# Altium schematic symbol library TI Stellaris.SchLib: 293 symbols (part 5 of 7)
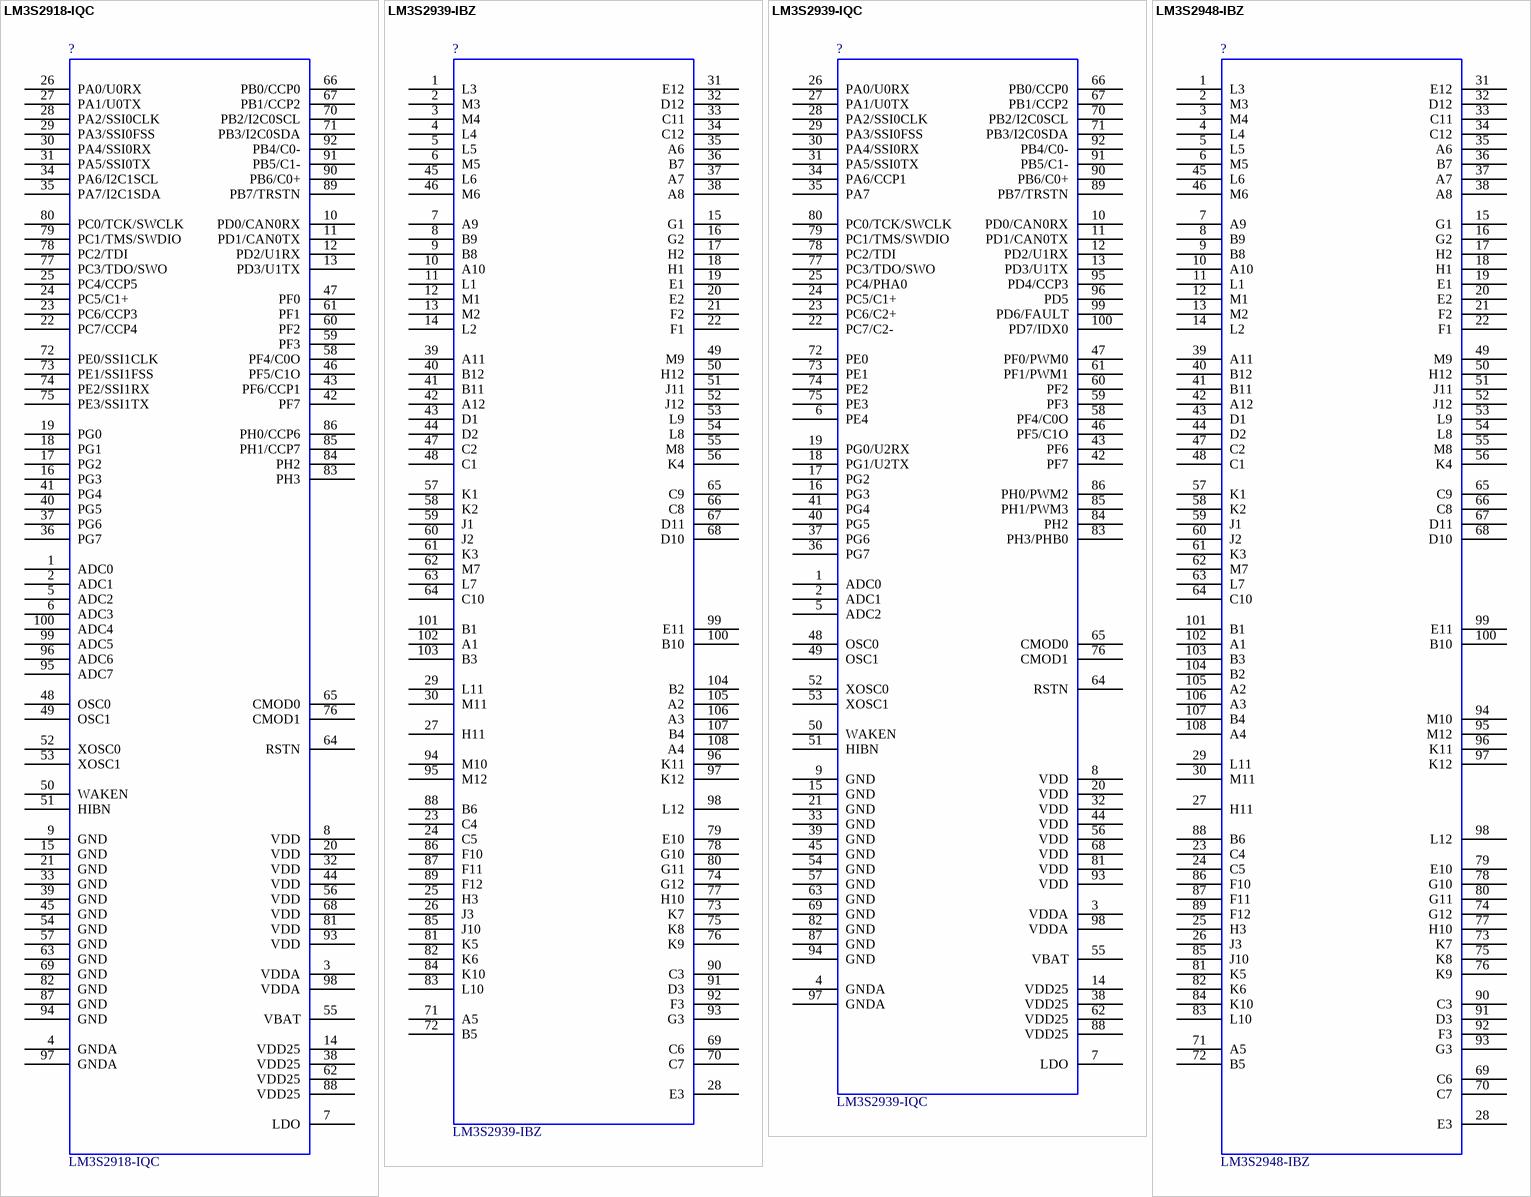
[diagram p73: symbols LM3S2918-IQC to LM3S2948-IBZ]

## LM3S2939-IBZ
designator ?  Comment_1: LM3S2939-IBZ  (hidden comment: *)
Stellaris ARM Cortex-M3 Microcontroller; Manufacturer #1: Luminary Micro; LMI Class: Fury; Designator: U; Part Number: LM3S2939-IBZ
footprint BGA108C80P12X12_1000X1000X150
pins: 1 L3, 2 M3, 3 M4, 4 L4, 5 L5, 6 M5, 7 A9, 8 B9, 9 B8, 10 A10, 11 L1, 12 M1, 13 M2, 14 L2, 15 G1, 16 G2, 17 H2, 18 H1, 19 E1, 20 E2, 21 F2, 22 F1, 23 C4, 24 C5, 25 H3, 26 J3, 27 H11, 28 E3, 29 L11, 30 M11, 31 E12, 32 D12, 33 C11, 34 C12, 35 A6, 36 B7, 37 A7, 38 A8, 39 A11, 40 B12, 41 B11, 42 A12, 43 D1, 44 D2, 45 L6, 46 M6, 47 C2, 48 C1, 49 M9, 50 H12, 51 J11, 52 J12, 53 L9, 54 L8, 55 M8, 56 K4, 57 K1, 58 K2, 59 J1, 60 J2, 61 K3, 62 M7, 63 L7, 64 C10, 65 C9, 66 C8, 67 D11, 68 D10, 69 C6, 70 C7, 71 A5, 72 B5, 73 K7, 74 G12, 75 K8, 76 K9, 77 H10, 78 G10, 79 E10, 80 G11, 81 K5, 82 K6, 83 L10, 84 K10, 85 J10, 86 F10, 87 F11, 88 B6, 89 F12, 90 C3, 91 D3, 92 F3, 93 G3, 94 M10, 95 M12, 96 K11, 97 K12, 98 L12, 99 E11, 100 B10, 101 B1, 102 A1, 103 B3, 104 B2, 105 A2, 106 A3, 107 B4, 108 A4

## LM3S2939-IQC
designator ?  Comment_1: LM3S2939-IQC  (hidden comment: *)
Stellaris ARM Cortex-M3 Microcontroller; Manufacturer #1: Luminary Micro; LMI Class: Fury; Designator: U; Part Number: LM3S2939-IQC
footprint QFP50P1600X1600X160-100N
pins: 1 ADC0, 2 ADC1, 3 VDDA, 4 GNDA, 5 ADC2, 6 PE4, 7 LDO, 8 VDD, 9 GND, 10 PD0/CAN0RX, 11 PD1/CAN0TX, 12 PD2/U1RX, 13 PD3/U1TX, 14 VDD25, 15 GND, 16 PG3, 17 PG2, 18 PG1/U2TX, 19 PG0/U2RX, 20 VDD, 21 GND, 22 PC7/C2-, 23 PC6/C2+, 24 PC5/C1+, 25 PC4/PHA0, 26 PA0/U0RX, 27 PA1/U0TX, 28 PA2/SSI0CLK, 29 PA3/SSI0FSS, 30 PA4/SSI0RX, 31 PA5/SSI0TX, 32 VDD, 33 GND, 34 PA6/CCP1, 35 PA7, 36 PG7, 37 PG6, 38 VDD25, 39 GND, 40 PG5, 41 PG4, 42 PF7, 43 PF6, 44 VDD, 45 GND, 46 PF5/C1O, 47 PF0/PWM0, 48 OSC0, 49 OSC1, 50 WAKEN, 51 HIBN, 52 XOSC0, 53 XOSC1, 54 GND, 55 VBAT, 56 VDD, 57 GND, 58 PF4/C0O, 59 PF3, 60 PF2, 61 PF1/PWM1, 62 VDD25, 63 GND, 64 RSTN, 65 CMOD0, 66 PB0/CCP0, 67 PB1/CCP2, 68 VDD, 69 GND, 70 PB2/I2C0SCL, 71 PB3/I2C0SDA, 72 PE0, 73 PE1, 74 PE2, 75 PE3, 76 CMOD1, 77 PC3/TDO/SWO, 78 PC2/TDI, 79 PC1/TMS/SWDIO, 80 PC0/TCK/SWCLK, 81 VDD, 82 GND, 83 PH3/PHB0, 84 PH2, 85 PH1/PWM3, 86 PH0/PWM2, 87 GND, 88 VDD25, 89 PB7/TRSTN, 90 PB6/C0+, 91 PB5/C1-, 92 PB4/C0-, 93 VDD, 94 GND, 95 PD4/CCP3, 96 PD5, 97 GNDA, 98 VDDA, 99 PD6/FAULT, 100 PD7/IDX0

## LM3S2948-IBZ
designator ?  Comment_1: LM3S2948-IBZ  (hidden comment: *)
Stellaris ARM Cortex-M3 Microcontroller; Manufacturer #1: Luminary Micro; LMI Class: Fury; Designator: U; Part Number: LM3S2948-IBZ
footprint BGA108C80P12X12_1000X1000X150
pins: 1 L3, 2 M3, 3 M4, 4 L4, 5 L5, 6 M5, 7 A9, 8 B9, 9 B8, 10 A10, 11 L1, 12 M1, 13 M2, 14 L2, 15 G1, 16 G2, 17 H2, 18 H1, 19 E1, 20 E2, 21 F2, 22 F1, 23 C4, 24 C5, 25 H3, 26 J3, 27 H11, 28 E3, 29 L11, 30 M11, 31 E12, 32 D12, 33 C11, 34 C12, 35 A6, 36 B7, 37 A7, 38 A8, 39 A11, 40 B12, 41 B11, 42 A12, 43 D1, 44 D2, 45 L6, 46 M6, 47 C2, 48 C1, 49 M9, 50 H12, 51 J11, 52 J12, 53 L9, 54 L8, 55 M8, 56 K4, 57 K1, 58 K2, 59 J1, 60 J2, 61 K3, 62 M7, 63 L7, 64 C10, 65 C9, 66 C8, 67 D11, 68 D10, 69 C6, 70 C7, 71 A5, 72 B5, 73 K7, 74 G12, 75 K8, 76 K9, 77 H10, 78 G10, 79 E10, 80 G11, 81 K5, 82 K6, 83 L10, 84 K10, 85 J10, 86 F10, 87 F11, 88 B6, 89 F12, 90 C3, 91 D3, 92 F3, 93 G3, 94 M10, 95 M12, 96 K11, 97 K12, 98 L12, 99 E11, 100 B10, 101 B1, 102 A1, 103 B3, 104 B2, 105 A2, 106 A3, 107 B4, 108 A4

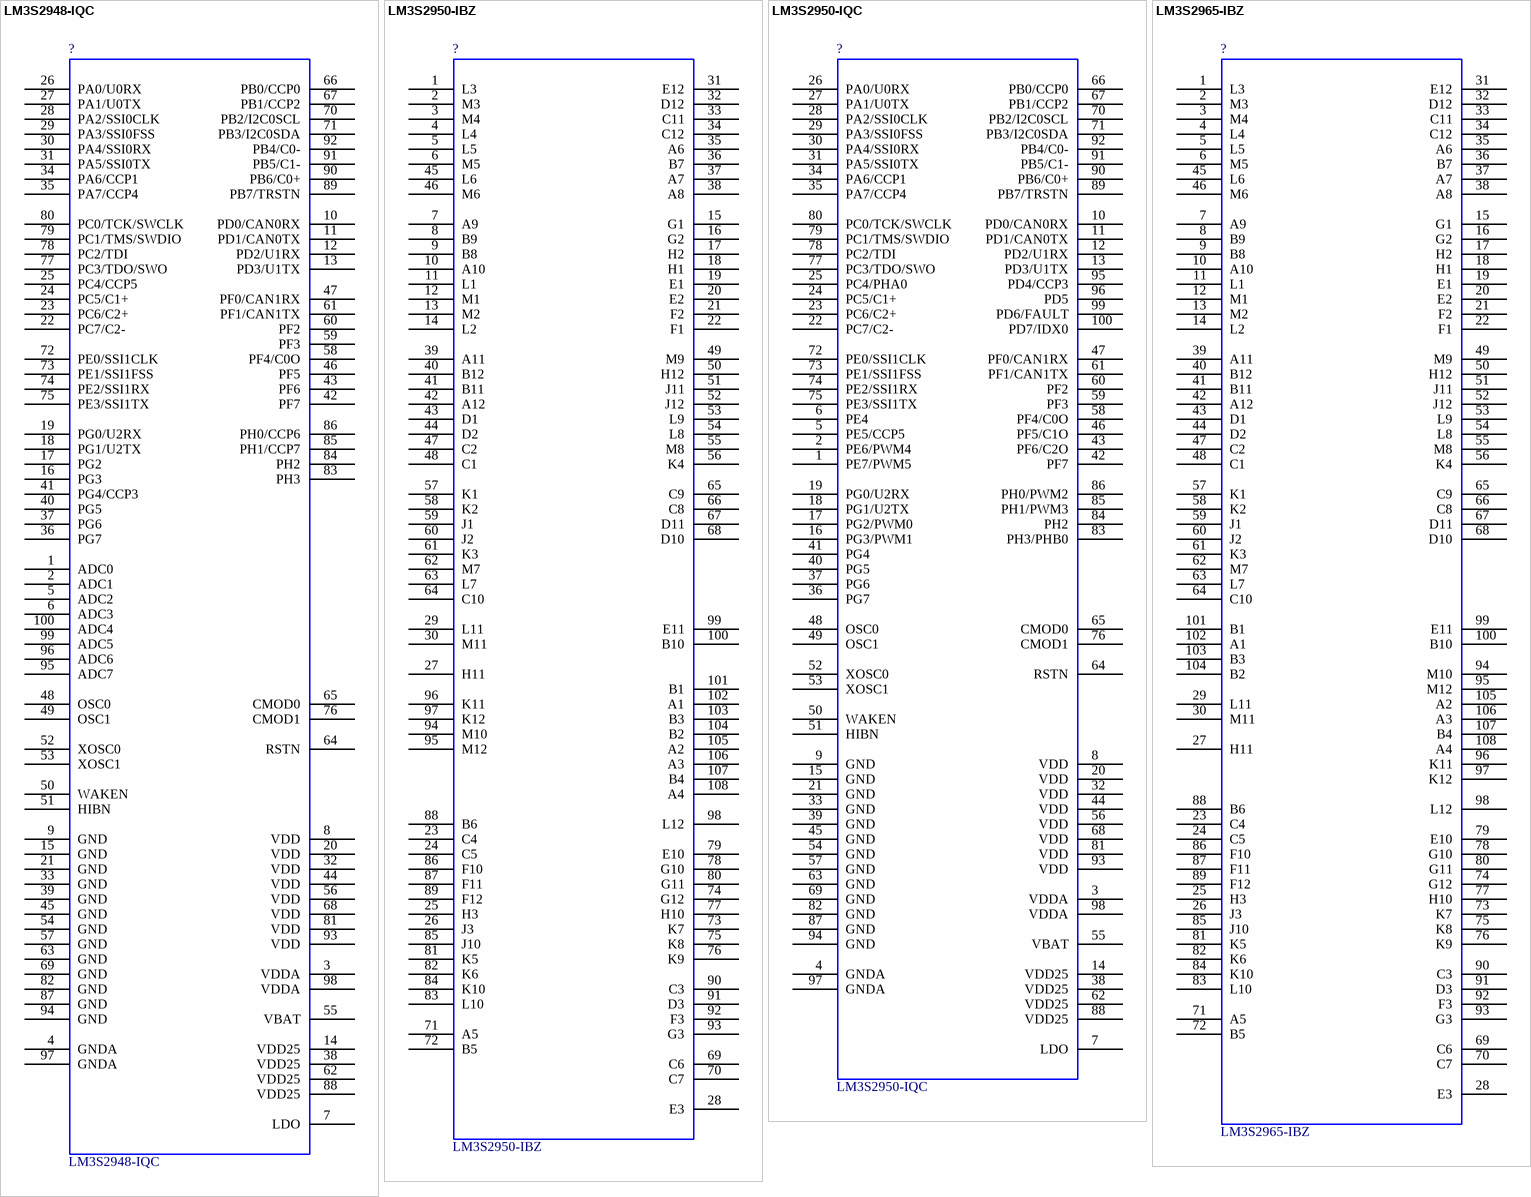
[diagram p44: symbols LM3S2948-IQC to LM3S2965-IBZ]

## LM3S2948-IQC
designator ?  Comment_1: LM3S2948-IQC  (hidden comment: *)
Stellaris ARM Cortex-M3 Microcontroller; Manufacturer #1: Luminary Micro; LMI Class: Fury; Designator: U; Part Number: LM3S2948-IQC
footprint QFP50P1600X1600X160-100N
pins: 1 ADC0, 2 ADC1, 3 VDDA, 4 GNDA, 5 ADC2, 6 ADC3, 7 LDO, 8 VDD, 9 GND, 10 PD0/CAN0RX, 11 PD1/CAN0TX, 12 PD2/U1RX, 13 PD3/U1TX, 14 VDD25, 15 GND, 16 PG3, 17 PG2, 18 PG1/U2TX, 19 PG0/U2RX, 20 VDD, 21 GND, 22 PC7/C2-, 23 PC6/C2+, 24 PC5/C1+, 25 PC4/CCP5, 26 PA0/U0RX, 27 PA1/U0TX, 28 PA2/SSI0CLK, 29 PA3/SSI0FSS, 30 PA4/SSI0RX, 31 PA5/SSI0TX, 32 VDD, 33 GND, 34 PA6/CCP1, 35 PA7/CCP4, 36 PG7, 37 PG6, 38 VDD25, 39 GND, 40 PG5, 41 PG4/CCP3, 42 PF7, 43 PF6, 44 VDD, 45 GND, 46 PF5, 47 PF0/CAN1RX, 48 OSC0, 49 OSC1, 50 WAKEN, 51 HIBN, 52 XOSC0, 53 XOSC1, 54 GND, 55 VBAT, 56 VDD, 57 GND, 58 PF4/C0O, 59 PF3, 60 PF2, 61 PF1/CAN1TX, 62 VDD25, 63 GND, 64 RSTN, 65 CMOD0, 66 PB0/CCP0, 67 PB1/CCP2, 68 VDD, 69 GND, 70 PB2/I2C0SCL, 71 PB3/I2C0SDA, 72 PE0/SSI1CLK, 73 PE1/SSI1FSS, 74 PE2/SSI1RX, 75 PE3/SSI1TX, 76 CMOD1, 77 PC3/TDO/SWO, 78 PC2/TDI, 79 PC1/TMS/SWDIO, 80 PC0/TCK/SWCLK, 81 VDD, 82 GND, 83 PH3, 84 PH2, 85 PH1/CCP7, 86 PH0/CCP6, 87 GND, 88 VDD25, 89 PB7/TRSTN, 90 PB6/C0+, 91 PB5/C1-, 92 PB4/C0-, 93 VDD, 94 GND, 95 ADC7, 96 ADC6, 97 GNDA, 98 VDDA, 99 ADC5, 100 ADC4

## LM3S2950-IBZ
designator ?  Comment_1: LM3S2950-IBZ  (hidden comment: *)
Stellaris ARM Cortex-M3 Microcontroller; Manufacturer #1: Luminary Micro; LMI Class: Fury; Designator: U; Part Number: LM3S2950-IBZ
footprint BGA108C80P12X12_1000X1000X150
pins: 1 L3, 2 M3, 3 M4, 4 L4, 5 L5, 6 M5, 7 A9, 8 B9, 9 B8, 10 A10, 11 L1, 12 M1, 13 M2, 14 L2, 15 G1, 16 G2, 17 H2, 18 H1, 19 E1, 20 E2, 21 F2, 22 F1, 23 C4, 24 C5, 25 H3, 26 J3, 27 H11, 28 E3, 29 L11, 30 M11, 31 E12, 32 D12, 33 C11, 34 C12, 35 A6, 36 B7, 37 A7, 38 A8, 39 A11, 40 B12, 41 B11, 42 A12, 43 D1, 44 D2, 45 L6, 46 M6, 47 C2, 48 C1, 49 M9, 50 H12, 51 J11, 52 J12, 53 L9, 54 L8, 55 M8, 56 K4, 57 K1, 58 K2, 59 J1, 60 J2, 61 K3, 62 M7, 63 L7, 64 C10, 65 C9, 66 C8, 67 D11, 68 D10, 69 C6, 70 C7, 71 A5, 72 B5, 73 K7, 74 G12, 75 K8, 76 K9, 77 H10, 78 G10, 79 E10, 80 G11, 81 K5, 82 K6, 83 L10, 84 K10, 85 J10, 86 F10, 87 F11, 88 B6, 89 F12, 90 C3, 91 D3, 92 F3, 93 G3, 94 M10, 95 M12, 96 K11, 97 K12, 98 L12, 99 E11, 100 B10, 101 B1, 102 A1, 103 B3, 104 B2, 105 A2, 106 A3, 107 B4, 108 A4

## LM3S2950-IQC
designator ?  Comment_1: LM3S2950-IQC  (hidden comment: *)
Stellaris ARM Cortex-M3 Microcontroller; Manufacturer #1: Luminary Micro; LMI Class: Fury; Designator: U; Part Number: LM3S2950-IQC
footprint QFP50P1600X1600X160-100N
pins: 1 PE7/PWM5, 2 PE6/PWM4, 3 VDDA, 4 GNDA, 5 PE5/CCP5, 6 PE4, 7 LDO, 8 VDD, 9 GND, 10 PD0/CAN0RX, 11 PD1/CAN0TX, 12 PD2/U1RX, 13 PD3/U1TX, 14 VDD25, 15 GND, 16 PG3/PWM1, 17 PG2/PWM0, 18 PG1/U2TX, 19 PG0/U2RX, 20 VDD, 21 GND, 22 PC7/C2-, 23 PC6/C2+, 24 PC5/C1+, 25 PC4/PHA0, 26 PA0/U0RX, 27 PA1/U0TX, 28 PA2/SSI0CLK, 29 PA3/SSI0FSS, 30 PA4/SSI0RX, 31 PA5/SSI0TX, 32 VDD, 33 GND, 34 PA6/CCP1, 35 PA7/CCP4, 36 PG7, 37 PG6, 38 VDD25, 39 GND, 40 PG5, 41 PG4, 42 PF7, 43 PF6/C2O, 44 VDD, 45 GND, 46 PF5/C1O, 47 PF0/CAN1RX, 48 OSC0, 49 OSC1, 50 WAKEN, 51 HIBN, 52 XOSC0, 53 XOSC1, 54 GND, 55 VBAT, 56 VDD, 57 GND, 58 PF4/C0O, 59 PF3, 60 PF2, 61 PF1/CAN1TX, 62 VDD25, 63 GND, 64 RSTN, 65 CMOD0, 66 PB0/CCP0, 67 PB1/CCP2, 68 VDD, 69 GND, 70 PB2/I2C0SCL, 71 PB3/I2C0SDA, 72 PE0/SSI1CLK, 73 PE1/SSI1FSS, 74 PE2/SSI1RX, 75 PE3/SSI1TX, 76 CMOD1, 77 PC3/TDO/SWO, 78 PC2/TDI, 79 PC1/TMS/SWDIO, 80 PC0/TCK/SWCLK, 81 VDD, 82 GND, 83 PH3/PHB0, 84 PH2, 85 PH1/PWM3, 86 PH0/PWM2, 87 GND, 88 VDD25, 89 PB7/TRSTN, 90 PB6/C0+, 91 PB5/C1-, 92 PB4/C0-, 93 VDD, 94 GND, 95 PD4/CCP3, 96 PD5, 97 GNDA, 98 VDDA, 99 PD6/FAULT, 100 PD7/IDX0

## LM3S2965-IBZ
designator ?  Comment_1: LM3S2965-IBZ  (hidden comment: *)
Stellaris ARM Cortex-M3 Microcontroller; Manufacturer #1: Luminary Micro; LMI Class: Fury; Designator: U; Part Number: LM3S2965-IBZ
footprint BGA108C80P12X12_1000X1000X150
pins: 1 L3, 2 M3, 3 M4, 4 L4, 5 L5, 6 M5, 7 A9, 8 B9, 9 B8, 10 A10, 11 L1, 12 M1, 13 M2, 14 L2, 15 G1, 16 G2, 17 H2, 18 H1, 19 E1, 20 E2, 21 F2, 22 F1, 23 C4, 24 C5, 25 H3, 26 J3, 27 H11, 28 E3, 29 L11, 30 M11, 31 E12, 32 D12, 33 C11, 34 C12, 35 A6, 36 B7, 37 A7, 38 A8, 39 A11, 40 B12, 41 B11, 42 A12, 43 D1, 44 D2, 45 L6, 46 M6, 47 C2, 48 C1, 49 M9, 50 H12, 51 J11, 52 J12, 53 L9, 54 L8, 55 M8, 56 K4, 57 K1, 58 K2, 59 J1, 60 J2, 61 K3, 62 M7, 63 L7, 64 C10, 65 C9, 66 C8, 67 D11, 68 D10, 69 C6, 70 C7, 71 A5, 72 B5, 73 K7, 74 G12, 75 K8, 76 K9, 77 H10, 78 G10, 79 E10, 80 G11, 81 K5, 82 K6, 83 L10, 84 K10, 85 J10, 86 F10, 87 F11, 88 B6, 89 F12, 90 C3, 91 D3, 92 F3, 93 G3, 94 M10, 95 M12, 96 K11, 97 K12, 98 L12, 99 E11, 100 B10, 101 B1, 102 A1, 103 B3, 104 B2, 105 A2, 106 A3, 107 B4, 108 A4

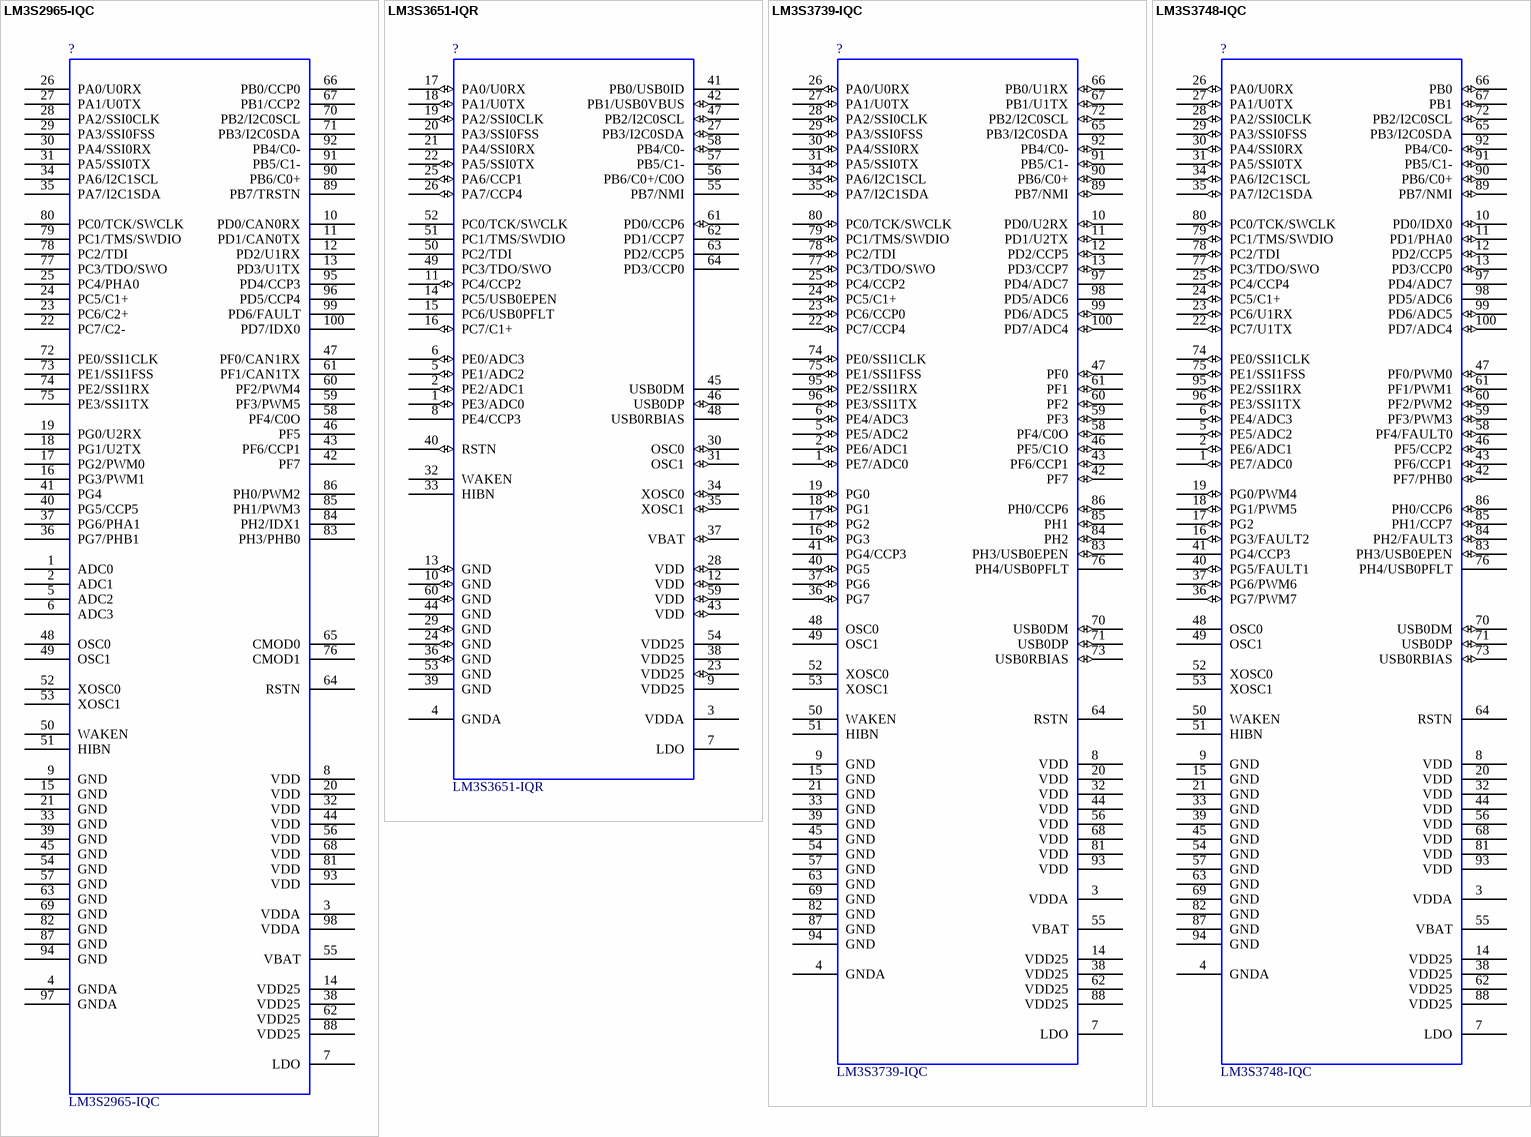
[diagram p45: symbols LM3S2965-IQC to LM3S3748-IQC]

## LM3S2965-IQC
designator ?  Comment_1: LM3S2965-IQC  (hidden comment: *)
Stellaris ARM Cortex-M3 Microcontroller; Manufacturer #1: Luminary Micro; LMI Class: Fury; Designator: U; Part Number: LM3S2965-IQC
footprint QFP50P1600X1600X160-100N
pins: 1 ADC0, 2 ADC1, 3 VDDA, 4 GNDA, 5 ADC2, 6 ADC3, 7 LDO, 8 VDD, 9 GND, 10 PD0/CAN0RX, 11 PD1/CAN0TX, 12 PD2/U1RX, 13 PD3/U1TX, 14 VDD25, 15 GND, 16 PG3/PWM1, 17 PG2/PWM0, 18 PG1/U2TX, 19 PG0/U2RX, 20 VDD, 21 GND, 22 PC7/C2-, 23 PC6/C2+, 24 PC5/C1+, 25 PC4/PHA0, 26 PA0/U0RX, 27 PA1/U0TX, 28 PA2/SSI0CLK, 29 PA3/SSI0FSS, 30 PA4/SSI0RX, 31 PA5/SSI0TX, 32 VDD, 33 GND, 34 PA6/I2C1SCL, 35 PA7/I2C1SDA, 36 PG7/PHB1, 37 PG6/PHA1, 38 VDD25, 39 GND, 40 PG5/CCP5, 41 PG4, 42 PF7, 43 PF6/CCP1, 44 VDD, 45 GND, 46 PF5, 47 PF0/CAN1RX, 48 OSC0, 49 OSC1, 50 WAKEN, 51 HIBN, 52 XOSC0, 53 XOSC1, 54 GND, 55 VBAT, 56 VDD, 57 GND, 58 PF4/C0O, 59 PF3/PWM5, 60 PF2/PWM4, 61 PF1/CAN1TX, 62 VDD25, 63 GND, 64 RSTN, 65 CMOD0, 66 PB0/CCP0, 67 PB1/CCP2, 68 VDD, 69 GND, 70 PB2/I2C0SCL, 71 PB3/I2C0SDA, 72 PE0/SSI1CLK, 73 PE1/SSI1FSS, 74 PE2/SSI1RX, 75 PE3/SSI1TX, 76 CMOD1, 77 PC3/TDO/SWO, 78 PC2/TDI, 79 PC1/TMS/SWDIO, 80 PC0/TCK/SWCLK, 81 VDD, 82 GND, 83 PH3/PHB0, 84 PH2/IDX1, 85 PH1/PWM3, 86 PH0/PWM2, 87 GND, 88 VDD25, 89 PB7/TRSTN, 90 PB6/C0+, 91 PB5/C1-, 92 PB4/C0-, 93 VDD, 94 GND, 95 PD4/CCP3, 96 PD5/CCP4, 97 GNDA, 98 VDDA, 99 PD6/FAULT, 100 PD7/IDX0

## LM3S3651-IQR
designator ?  Comment_1: LM3S3651-IQR  (hidden comment: *)
Stellaris ARM Cortex-M3 Microcontroller; Manufacturer #1: Luminary Micro; LMI Class: Dust Devil; Designator: U; Part Number: LM3S3651-IQR
footprint QFP50P1200X1200X160-64N
pins: 1 PE3/ADC0 (io), 2 PE2/ADC1 (io), 3 VDDA (power), 4 GNDA (power), 5 PE1/ADC2 (io), 6 PE0/ADC3 (io), 7 LDO, 8 PE4/CCP3 (power), 9 VDD25 (power), 10 GND (io), 11 PC4/CCP2 (io), 12 VDD (io), 13 GND (io), 14 PC5/USB0EPEN (power), 15 PC6/USB0PFLT (power), 16 PC7/C1+ (io), 17 PA0/U0RX (io), 18 PA1/U0TX (io), 19 PA2/SSI0CLK (io), 20 PA3/SSI0FSS (power), 21 PA4/SSI0RX (power), 22 PA5/SSI0TX (io), 23 VDD25 (io), 24 GND (io), 25 PA6/CCP1 (io), 26 PA7/CCP4 (io), 27 PB3/I2C0SDA (io), 28 VDD (io), 29 GND (io), 30 OSC0 (io), 31 OSC1 (io), 32 WAKEN (power), 33 HIBN (power), 34 XOSC0 (io), 35 XOSC1 (io), 36 GND (io), 37 VBAT (io), 38 VDD25 (power), 39 GND (power), 40 RSTN (io), 41 PB0/USB0ID, 42 PB1/USB0VBUS (io), 43 VDD (io), 44 GND (power), 45 USB0DM (power), 46 USB0DP (io), 47 PB2/I2C0SCL (io), 48 USB0RBIAS, 49 PC3/TDO/SWO, 50 PC2/TDI, 51 PC1/TMS/SWDIO, 52 PC0/TCK/SWCLK, 53 GND, 54 VDD25 (power), 55 PB7/NMI (power), 56 PB6/C0+/C0O (power), 57 PB5/C1- (power), 58 PB4/C0- (io), 59 VDD (io), 60 GND (io), 61 PD0/CCP6 (io), 62 PD1/CCP7 (power), 63 PD2/CCP5 (power), 64 PD3/CCP0

## LM3S3739-IQC
designator ?  Comment_1: LM3S3739-IQC  (hidden comment: *)
Stellaris ARM Cortex-M3 Microcontroller; Manufacturer #1: Luminary Micro; LMI Class: Dust Devil; Designator: U; Part Number: LM3S3739-IQC
footprint QFP50P1600X1600X160-100N
pins: 1 PE7/ADC0 (io), 2 PE6/ADC1 (io), 3 VDDA (power), 4 GNDA (power), 5 PE5/ADC2 (io), 6 PE4/ADC3 (io), 7 LDO, 8 VDD (power), 9 GND (power), 10 PD0/U2RX (io), 11 PD1/U2TX (io), 12 PD2/CCP5 (io), 13 PD3/CCP7 (io), 14 VDD25 (power), 15 GND (power), 16 PG3 (io), 17 PG2 (io), 18 PG1 (io), 19 PG0 (io), 20 VDD (power), 21 GND (power), 22 PC7/CCP4 (io), 23 PC6/CCP0 (io), 24 PC5/C1+ (io), 25 PC4/CCP2 (io), 26 PA0/U0RX (io), 27 PA1/U0TX (io), 28 PA2/SSI0CLK (io), 29 PA3/SSI0FSS (io), 30 PA4/SSI0RX (io), 31 PA5/SSI0TX (io), 32 VDD (power), 33 GND (power), 34 PA6/I2C1SCL (io), 35 PA7/I2C1SDA (io), 36 PG7 (io), 37 PG6 (io), 38 VDD25 (power), 39 GND (power), 40 PG5 (io), 41 PG4/CCP3, 42 PF7 (io), 43 PF6/CCP1 (io), 44 VDD (power), 45 GND (power), 46 PF5/C1O (io), 47 PF0 (io), 48 OSC0, 49 OSC1, 50 WAKEN, 51 HIBN, 52 XOSC0, 53 XOSC1, 54 GND (power), 55 VBAT (power), 56 VDD (power), 57 GND (power), 58 PF4/C0O (io), 59 PF3 (io), 60 PF2 (io), 61 PF1 (io), 62 VDD25 (power), 63 GND (power), 64 RSTN, 65 PB3/I2C0SDA, 66 PB0/U1RX (io), 67 PB1/U1TX (io), 68 VDD (power), 69 GND (power), 70 USB0DM (io), 71 USB0DP (io), 72 PB2/I2C0SCL (io), 73 USB0RBIAS (io), 74 PE0/SSI1CLK (io), 75 PE1/SSI1FSS (io), 76 PH4/USB0PFLT, 77 PC3/TDO/SWO (io), 78 PC2/TDI (io), 79 PC1/TMS/SWDIO (io), 80 PC0/TCK/SWCLK (io), 81 VDD (power), 82 GND (power), 83 PH3/USB0EPEN (io), 84 PH2 (io), 85 PH1 (io), 86 PH0/CCP6 (io), 87 GND (power), 88 VDD25 (power), 89 PB7/NMI (io), 90 PB6/C0+ (io), 91 PB5/C1- (io), 92 PB4/C0- (io), 93 VDD (power), 94 GND (power), 95 PE2/SSI1RX (io), 96 PE3/SSI1TX (io), 97 PD4/ADC7 (power), 98 PD5/ADC6 (power), 99 PD6/ADC5 (io), 100 PD7/ADC4 (io)

## LM3S3748-IQC
designator ?  Comment_1: LM3S3748-IQC  (hidden comment: *)
Stellaris ARM Cortex-M3 Microcontroller; Manufacturer #1: Luminary Micro; LMI Class: Dust Devil; Designator: U; Part Number: LM3S3748-IQC
footprint QFP50P1600X1600X160-100N
pins: 1 PE7/ADC0 (io), 2 PE6/ADC1 (io), 3 VDDA (power), 4 GNDA (power), 5 PE5/ADC2 (io), 6 PE4/ADC3 (io), 7 LDO, 8 VDD (power), 9 GND (power), 10 PD0/IDX0 (io), 11 PD1/PHA0 (io), 12 PD2/CCP5 (io), 13 PD3/CCP0 (io), 14 VDD25 (power), 15 GND (power), 16 PG3/FAULT2 (io), 17 PG2 (io), 18 PG1/PWM5 (io), 19 PG0/PWM4 (io), 20 VDD (power), 21 GND (power), 22 PC7/U1TX (io), 23 PC6/U1RX (io), 24 PC5/C1+ (io), 25 PC4/CCP4 (io), 26 PA0/U0RX (io), 27 PA1/U0TX (io), 28 PA2/SSI0CLK (io), 29 PA3/SSI0FSS (io), 30 PA4/SSI0RX (io), 31 PA5/SSI0TX (io), 32 VDD (power), 33 GND (power), 34 PA6/I2C1SCL (io), 35 PA7/I2C1SDA (io), 36 PG7/PWM7 (io), 37 PG6/PWM6 (io), 38 VDD25 (power), 39 GND (power), 40 PG5/FAULT1 (io), 41 PG4/CCP3, 42 PF7/PHB0 (io), 43 PF6/CCP1 (io), 44 VDD (power), 45 GND (power), 46 PF5/CCP2 (io), 47 PF0/PWM0 (io), 48 OSC0, 49 OSC1, 50 WAKEN, 51 HIBN, 52 XOSC0, 53 XOSC1, 54 GND (power), 55 VBAT (power), 56 VDD (power), 57 GND (power), 58 PF4/FAULT0 (io), 59 PF3/PWM3 (io), 60 PF2/PWM2 (io), 61 PF1/PWM1 (io), 62 VDD25 (power), 63 GND (power), 64 RSTN, 65 PB3/I2C0SDA, 66 PB0 (io), 67 PB1 (io), 68 VDD (power), 69 GND (power), 70 USB0DM (io), 71 USB0DP (io), 72 PB2/I2C0SCL (io), 73 USB0RBIAS (io), 74 PE0/SSI1CLK (io), 75 PE1/SSI1FSS (io), 76 PH4/USB0PFLT, 77 PC3/TDO/SWO (io), 78 PC2/TDI (io), 79 PC1/TMS/SWDIO (io), 80 PC0/TCK/SWCLK (io), 81 VDD (power), 82 GND (power), 83 PH3/USB0EPEN (io), 84 PH2/FAULT3 (io), 85 PH1/CCP7 (io), 86 PH0/CCP6 (io), 87 GND (power), 88 VDD25 (power), 89 PB7/NMI (io), 90 PB6/C0+ (io), 91 PB5/C1- (io), 92 PB4/C0- (io), 93 VDD (power), 94 GND (power), 95 PE2/SSI1RX (io), 96 PE3/SSI1TX (io), 97 PD4/ADC7 (power), 98 PD5/ADC6 (power), 99 PD6/ADC5 (io), 100 PD7/ADC4 (io)

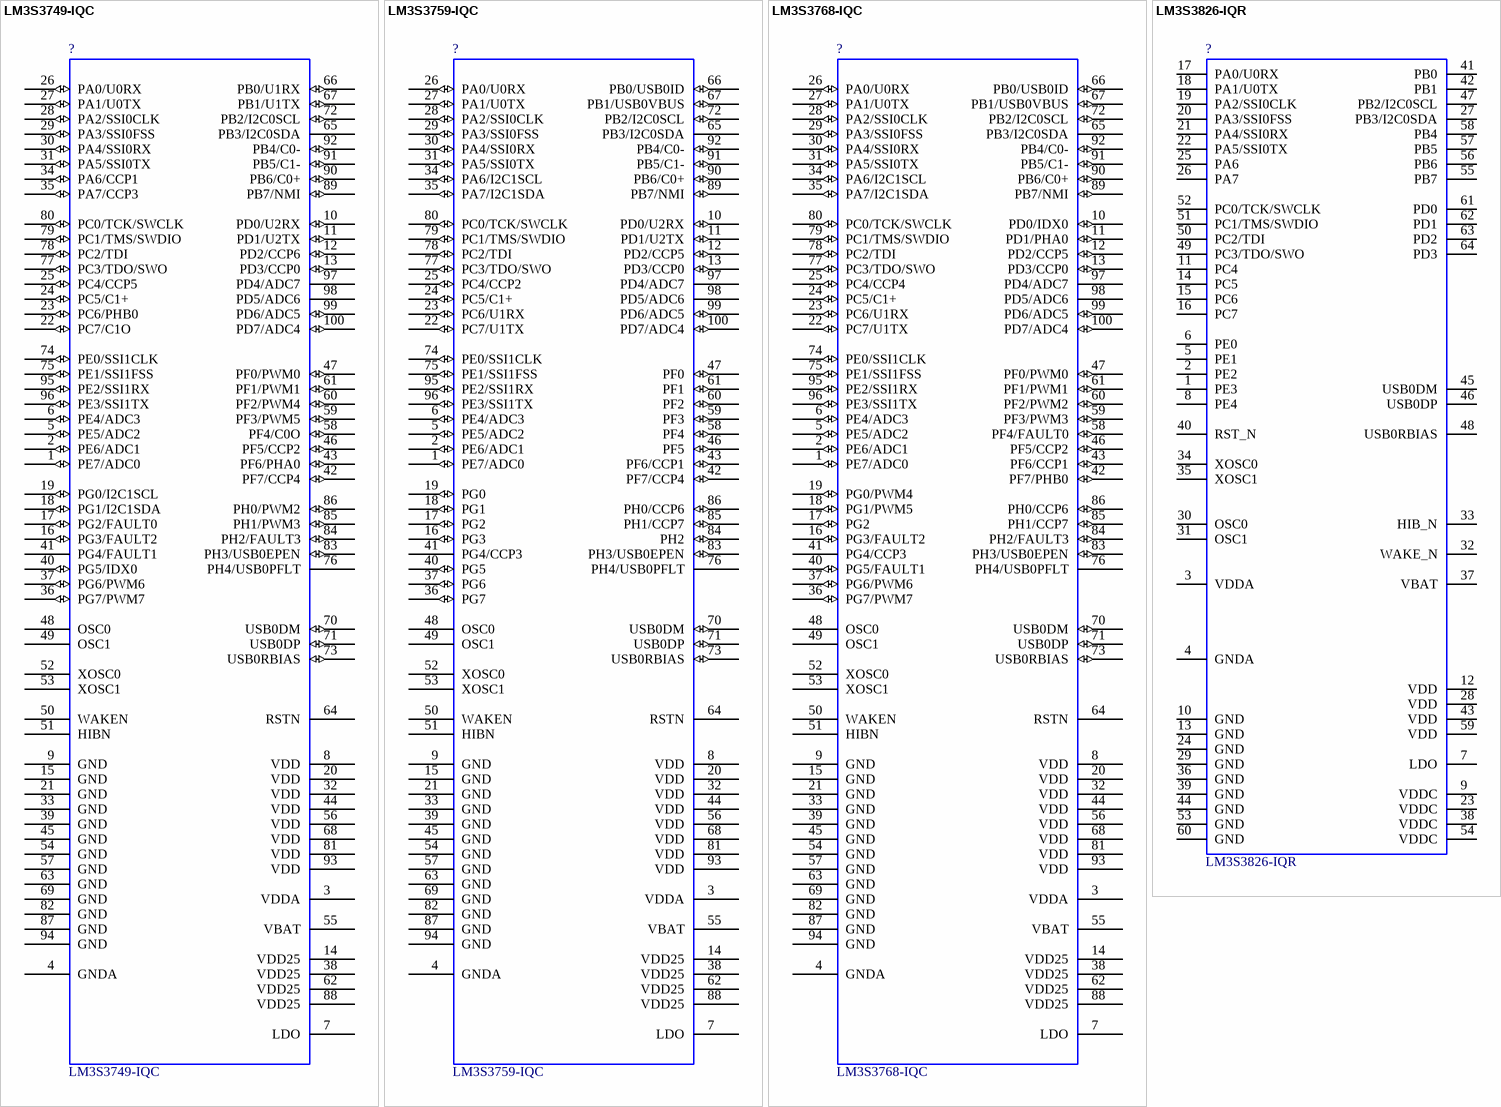
[diagram p46: symbols LM3S3749-IQC to LM3S3826-IQR]

## LM3S3749-IQC
designator ?  Comment_1: LM3S3749-IQC  (hidden comment: *)
Stellaris ARM Cortex-M3 Microcontroller; Manufacturer #1: Luminary Micro; LMI Class: Dust Devil; Designator: U; Part Number: LM3S3749-IQC
footprint QFP50P1600X1600X160-100N
pins: 1 PE7/ADC0 (io), 2 PE6/ADC1 (io), 3 VDDA (power), 4 GNDA (power), 5 PE5/ADC2 (io), 6 PE4/ADC3 (io), 7 LDO, 8 VDD (power), 9 GND (power), 10 PD0/U2RX (io), 11 PD1/U2TX (io), 12 PD2/CCP6 (io), 13 PD3/CCP0 (io), 14 VDD25 (power), 15 GND (power), 16 PG3/FAULT2 (io), 17 PG2/FAULT0 (io), 18 PG1/I2C1SDA (io), 19 PG0/I2C1SCL (io), 20 VDD (power), 21 GND (power), 22 PC7/C1O (io), 23 PC6/PHB0 (io), 24 PC5/C1+ (io), 25 PC4/CCP5 (io), 26 PA0/U0RX (io), 27 PA1/U0TX (io), 28 PA2/SSI0CLK (io), 29 PA3/SSI0FSS (io), 30 PA4/SSI0RX (io), 31 PA5/SSI0TX (io), 32 VDD (power), 33 GND (power), 34 PA6/CCP1 (io), 35 PA7/CCP3 (io), 36 PG7/PWM7 (io), 37 PG6/PWM6 (io), 38 VDD25 (power), 39 GND (power), 40 PG5/IDX0 (io), 41 PG4/FAULT1, 42 PF7/CCP4 (io), 43 PF6/PHA0 (io), 44 VDD (power), 45 GND (power), 46 PF5/CCP2 (io), 47 PF0/PWM0 (io), 48 OSC0, 49 OSC1, 50 WAKEN, 51 HIBN, 52 XOSC0, 53 XOSC1, 54 GND (power), 55 VBAT (power), 56 VDD (power), 57 GND (power), 58 PF4/C0O (io), 59 PF3/PWM5 (io), 60 PF2/PWM4 (io), 61 PF1/PWM1 (io), 62 VDD25 (power), 63 GND (power), 64 RSTN, 65 PB3/I2C0SDA, 66 PB0/U1RX (io), 67 PB1/U1TX (io), 68 VDD (power), 69 GND (power), 70 USB0DM (io), 71 USB0DP (io), 72 PB2/I2C0SCL (io), 73 USB0RBIAS (io), 74 PE0/SSI1CLK (io), 75 PE1/SSI1FSS (io), 76 PH4/USB0PFLT, 77 PC3/TDO/SWO (io), 78 PC2/TDI (io), 79 PC1/TMS/SWDIO (io), 80 PC0/TCK/SWCLK (io), 81 VDD (power), 82 GND (power), 83 PH3/USB0EPEN (io), 84 PH2/FAULT3 (io), 85 PH1/PWM3 (io), 86 PH0/PWM2 (io), 87 GND (power), 88 VDD25 (power), 89 PB7/NMI (io), 90 PB6/C0+ (io), 91 PB5/C1- (io), 92 PB4/C0- (io), 93 VDD (power), 94 GND (power), 95 PE2/SSI1RX (io), 96 PE3/SSI1TX (io), 97 PD4/ADC7 (power), 98 PD5/ADC6 (power), 99 PD6/ADC5 (io), 100 PD7/ADC4 (io)

## LM3S3759-IQC
designator ?  Comment_1: LM3S3759-IQC  (hidden comment: *)
Stellaris ARM Cortex-M3 Microcontroller; Manufacturer #1: Luminary Micro; LMI Class: Dust Devil; Designator: U; Part Number: LM3S3759-IQC
footprint QFP50P1600X1600X160-100N
pins: 1 PE7/ADC0 (io), 2 PE6/ADC1 (io), 3 VDDA (power), 4 GNDA (power), 5 PE5/ADC2 (io), 6 PE4/ADC3 (io), 7 LDO, 8 VDD (power), 9 GND (power), 10 PD0/U2RX (io), 11 PD1/U2TX (io), 12 PD2/CCP5 (io), 13 PD3/CCP0 (io), 14 VDD25 (power), 15 GND (power), 16 PG3 (io), 17 PG2 (io), 18 PG1 (io), 19 PG0 (io), 20 VDD (power), 21 GND (power), 22 PC7/U1TX (io), 23 PC6/U1RX (io), 24 PC5/C1+ (io), 25 PC4/CCP2 (io), 26 PA0/U0RX (io), 27 PA1/U0TX (io), 28 PA2/SSI0CLK (io), 29 PA3/SSI0FSS (io), 30 PA4/SSI0RX (io), 31 PA5/SSI0TX (io), 32 VDD (power), 33 GND (power), 34 PA6/I2C1SCL (io), 35 PA7/I2C1SDA (io), 36 PG7 (io), 37 PG6 (io), 38 VDD25 (power), 39 GND (power), 40 PG5 (io), 41 PG4/CCP3, 42 PF7/CCP4 (io), 43 PF6/CCP1 (io), 44 VDD (power), 45 GND (power), 46 PF5 (io), 47 PF0 (io), 48 OSC0, 49 OSC1, 50 WAKEN, 51 HIBN, 52 XOSC0, 53 XOSC1, 54 GND (power), 55 VBAT (power), 56 VDD (power), 57 GND (power), 58 PF4 (io), 59 PF3 (io), 60 PF2 (io), 61 PF1 (io), 62 VDD25 (power), 63 GND (power), 64 RSTN, 65 PB3/I2C0SDA, 66 PB0/USB0ID (io), 67 PB1/USB0VBUS (io), 68 VDD (power), 69 GND (power), 70 USB0DM (io), 71 USB0DP (io), 72 PB2/I2C0SCL (io), 73 USB0RBIAS (io), 74 PE0/SSI1CLK (io), 75 PE1/SSI1FSS (io), 76 PH4/USB0PFLT, 77 PC3/TDO/SWO (io), 78 PC2/TDI (io), 79 PC1/TMS/SWDIO (io), 80 PC0/TCK/SWCLK (io), 81 VDD (power), 82 GND (power), 83 PH3/USB0EPEN (io), 84 PH2 (io), 85 PH1/CCP7 (io), 86 PH0/CCP6 (io), 87 GND (power), 88 VDD25 (power), 89 PB7/NMI (io), 90 PB6/C0+ (io), 91 PB5/C1- (io), 92 PB4/C0- (io), 93 VDD (power), 94 GND (power), 95 PE2/SSI1RX (io), 96 PE3/SSI1TX (io), 97 PD4/ADC7 (power), 98 PD5/ADC6 (power), 99 PD6/ADC5 (io), 100 PD7/ADC4 (io)

## LM3S3768-IQC
designator ?  Comment_1: LM3S3768-IQC  (hidden comment: *)
Stellaris ARM Cortex-M3 Microcontroller; Manufacturer #1: Luminary Micro; LMI Class: Dust Devil; Designator: U; Part Number: LM3S3768-IQC
footprint QFP50P1600X1600X160-100N
pins: 1 PE7/ADC0 (io), 2 PE6/ADC1 (io), 3 VDDA (power), 4 GNDA (power), 5 PE5/ADC2 (io), 6 PE4/ADC3 (io), 7 LDO, 8 VDD (power), 9 GND (power), 10 PD0/IDX0 (io), 11 PD1/PHA0 (io), 12 PD2/CCP5 (io), 13 PD3/CCP0 (io), 14 VDD25 (power), 15 GND (power), 16 PG3/FAULT2 (io), 17 PG2 (io), 18 PG1/PWM5 (io), 19 PG0/PWM4 (io), 20 VDD (power), 21 GND (power), 22 PC7/U1TX (io), 23 PC6/U1RX (io), 24 PC5/C1+ (io), 25 PC4/CCP4 (io), 26 PA0/U0RX (io), 27 PA1/U0TX (io), 28 PA2/SSI0CLK (io), 29 PA3/SSI0FSS (io), 30 PA4/SSI0RX (io), 31 PA5/SSI0TX (io), 32 VDD (power), 33 GND (power), 34 PA6/I2C1SCL (io), 35 PA7/I2C1SDA (io), 36 PG7/PWM7 (io), 37 PG6/PWM6 (io), 38 VDD25 (power), 39 GND (power), 40 PG5/FAULT1 (io), 41 PG4/CCP3, 42 PF7/PHB0 (io), 43 PF6/CCP1 (io), 44 VDD (power), 45 GND (power), 46 PF5/CCP2 (io), 47 PF0/PWM0 (io), 48 OSC0, 49 OSC1, 50 WAKEN, 51 HIBN, 52 XOSC0, 53 XOSC1, 54 GND (power), 55 VBAT (power), 56 VDD (power), 57 GND (power), 58 PF4/FAULT0 (io), 59 PF3/PWM3 (io), 60 PF2/PWM2 (io), 61 PF1/PWM1 (io), 62 VDD25 (power), 63 GND (power), 64 RSTN, 65 PB3/I2C0SDA, 66 PB0/USB0ID (io), 67 PB1/USB0VBUS (io), 68 VDD (power), 69 GND (power), 70 USB0DM (io), 71 USB0DP (io), 72 PB2/I2C0SCL (io), 73 USB0RBIAS (io), 74 PE0/SSI1CLK (io), 75 PE1/SSI1FSS (io), 76 PH4/USB0PFLT, 77 PC3/TDO/SWO (io), 78 PC2/TDI (io), 79 PC1/TMS/SWDIO (io), 80 PC0/TCK/SWCLK (io), 81 VDD (power), 82 GND (power), 83 PH3/USB0EPEN (io), 84 PH2/FAULT3 (io), 85 PH1/CCP7 (io), 86 PH0/CCP6 (io), 87 GND (power), 88 VDD25 (power), 89 PB7/NMI (io), 90 PB6/C0+ (io), 91 PB5/C1- (io), 92 PB4/C0- (io), 93 VDD (power), 94 GND (power), 95 PE2/SSI1RX (io), 96 PE3/SSI1TX (io), 97 PD4/ADC7 (power), 98 PD5/ADC6 (power), 99 PD6/ADC5 (io), 100 PD7/ADC4 (io)

## LM3S3826-IQR
designator ?
Stellaris ARM Cortex-M3 Microcontroller; Manufacturer #1: Texas Instruments; Stellaris Class: Tempest; Part Number: LM3S3826-IQR
footprint QFP50P1200X1200X160-64N
pins: 1 PE3, 2 PE2, 3 VDDA, 4 GNDA, 5 PE1, 6 PE0, 7 LDO, 8 PE4, 9 VDDC, 10 GND, 11 PC4, 12 VDD, 13 GND, 14 PC5, 15 PC6 (power), 16 PC7, 17 PA0/U0RX, 18 PA1/U0TX, 19 PA2/SSI0CLK, 20 PA3/SSI0FSS, 21 PA4/SSI0RX, 22 PA5/SSI0TX, 23 VDDC, 24 GND, 25 PA6, 26 PA7, 27 PB3/I2C0SDA, 28 VDD, 29 GND, 30 OSC0, 31 OSC1, 32 WAKE_N, 33 HIB_N, 34 XOSC0, 35 XOSC1, 36 GND, 37 VBAT, 38 VDDC, 39 GND, 40 RST_N, 41 PB0, 42 PB1, 43 VDD, 44 GND, 45 USB0DM, 46 USB0DP, 47 PB2/I2C0SCL, 48 USB0RBIAS, 49 PC3/TDO/SWO, 50 PC2/TDI, 51 PC1/TMS/SWDIO, 52 PC0/TCK/SWCLK, 53 GND, 54 VDDC, 55 PB7, 56 PB6, 57 PB5, 58 PB4, 59 VDD, 60 GND, 61 PD0, 62 PD1, 63 PD2, 64 PD3

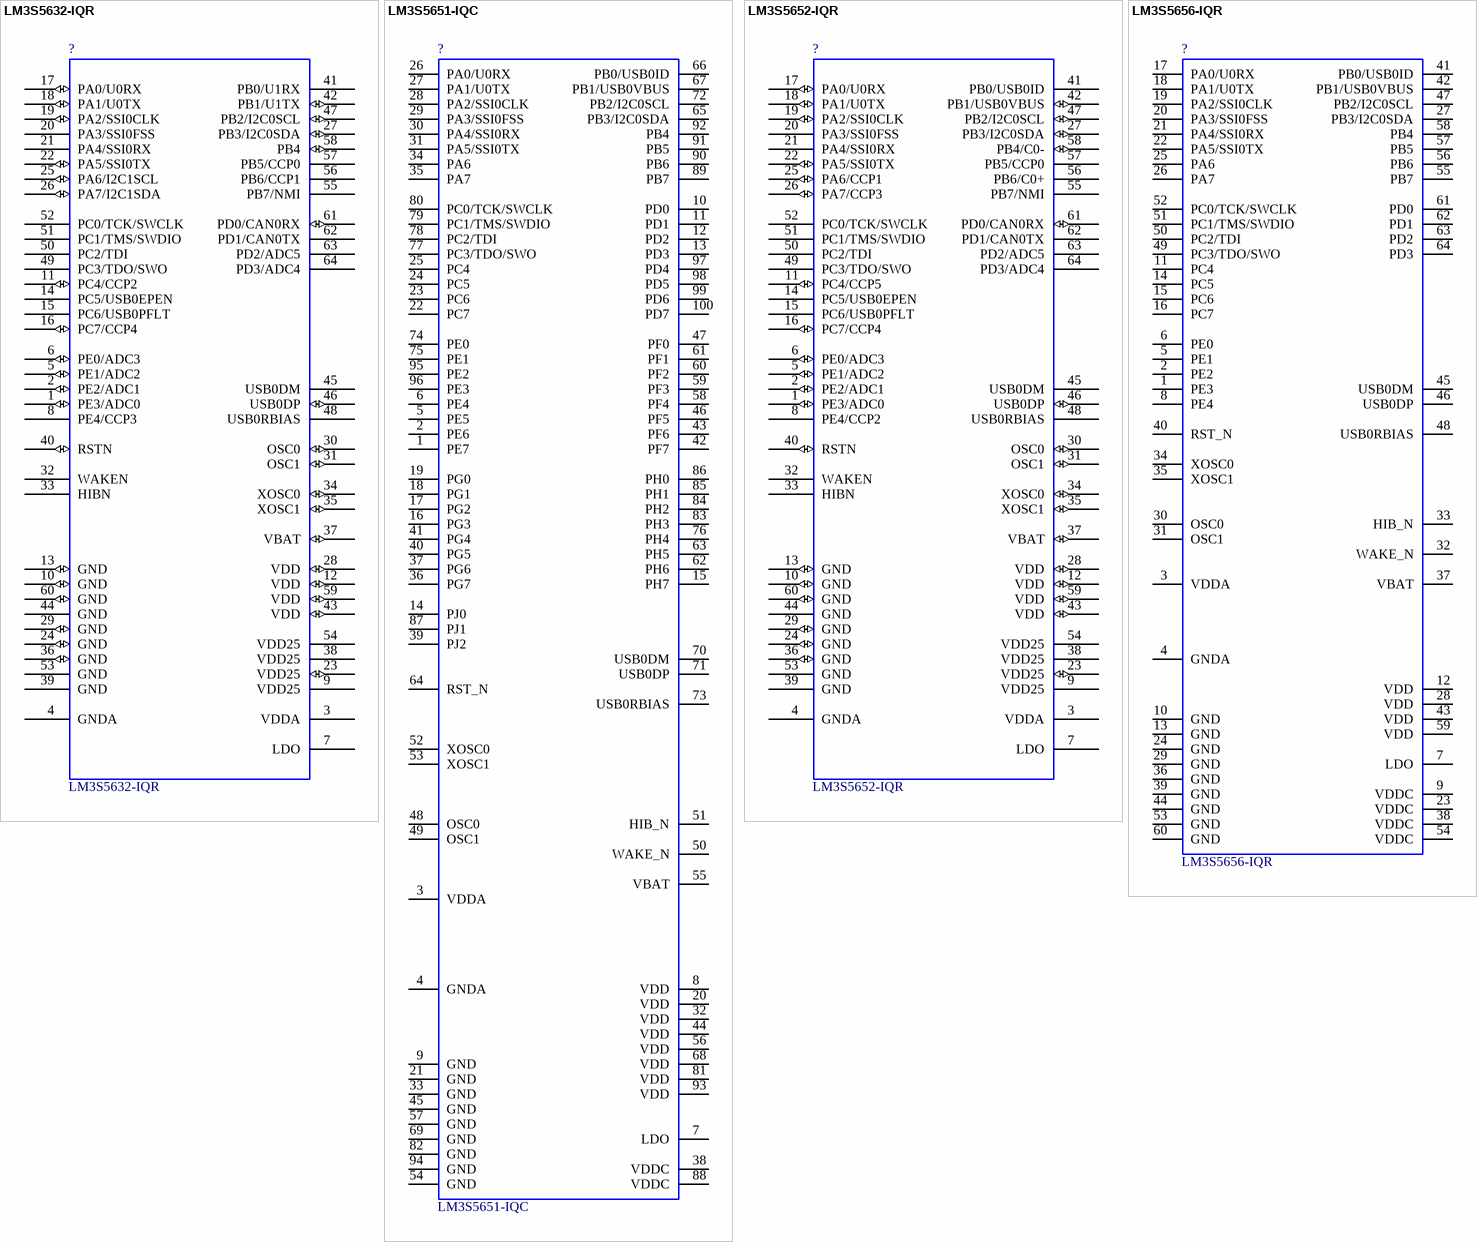
[diagram p47: symbols LM3S5632-IQR to LM3S5656-IQR]

## LM3S5632-IQR
designator ?  Comment_1: LM3S5632-IQR  (hidden comment: *)
Stellaris ARM Cortex-M3 Microcontroller; Manufacturer #1: Luminary Micro; LMI Class: Dust Devil; Designator: U; Part Number: LM3S5632-IQR
footprint QFP50P1200X1200X160-64N
pins: 1 PE3/ADC0 (io), 2 PE2/ADC1 (io), 3 VDDA (power), 4 GNDA (power), 5 PE1/ADC2 (io), 6 PE0/ADC3 (io), 7 LDO, 8 PE4/CCP3 (power), 9 VDD25 (power), 10 GND (io), 11 PC4/CCP2 (io), 12 VDD (io), 13 GND (io), 14 PC5/USB0EPEN (power), 15 PC6/USB0PFLT (power), 16 PC7/CCP4 (io), 17 PA0/U0RX (io), 18 PA1/U0TX (io), 19 PA2/SSI0CLK (io), 20 PA3/SSI0FSS (power), 21 PA4/SSI0RX (power), 22 PA5/SSI0TX (io), 23 VDD25 (io), 24 GND (io), 25 PA6/I2C1SCL (io), 26 PA7/I2C1SDA (io), 27 PB3/I2C0SDA (io), 28 VDD (io), 29 GND (io), 30 OSC0 (io), 31 OSC1 (io), 32 WAKEN (power), 33 HIBN (power), 34 XOSC0 (io), 35 XOSC1 (io), 36 GND (io), 37 VBAT (io), 38 VDD25 (power), 39 GND (power), 40 RSTN (io), 41 PB0/U1RX, 42 PB1/U1TX (io), 43 VDD (io), 44 GND (power), 45 USB0DM (power), 46 USB0DP (io), 47 PB2/I2C0SCL (io), 48 USB0RBIAS, 49 PC3/TDO/SWO, 50 PC2/TDI, 51 PC1/TMS/SWDIO, 52 PC0/TCK/SWCLK, 53 GND, 54 VDD25 (power), 55 PB7/NMI (power), 56 PB6/CCP1 (power), 57 PB5/CCP0 (power), 58 PB4 (io), 59 VDD (io), 60 GND (io), 61 PD0/CAN0RX (io), 62 PD1/CAN0TX (power), 63 PD2/ADC5 (power), 64 PD3/ADC4

## LM3S5651-IQC
designator ?
Stellaris ARM Cortex-M3 Microcontroller; Manufacturer #1: Texas Instruments; Stellaris Class: Tempest; Part Number: LM3S5651-IQC
footprint QFP50P1600X1600X160-100N
pins: 1 PE7, 2 PE6, 3 VDDA, 4 GNDA, 5 PE5, 6 PE4, 7 LDO, 8 VDD, 9 GND, 10 PD0, 11 PD1, 12 PD2, 13 PD3, 14 PJ0, 15 PH7, 16 PG3, 17 PG2, 18 PG1, 19 PG0, 20 VDD, 21 GND, 22 PC7, 23 PC6, 24 PC5, 25 PC4, 26 PA0/U0RX, 27 PA1/U0TX, 28 PA2/SSI0CLK, 29 PA3/SSI0FSS, 30 PA4/SSI0RX, 31 PA5/SSI0TX, 32 VDD, 33 GND, 34 PA6, 35 PA7, 36 PG7, 37 PG6, 38 VDDC, 39 PJ2, 40 PG5, 41 PG4, 42 PF7, 43 PF6, 44 VDD, 45 GND, 46 PF5, 47 PF0, 48 OSC0, 49 OSC1, 50 WAKE_N, 51 HIB_N, 52 XOSC0, 53 XOSC1, 54 GND, 55 VBAT, 56 VDD, 57 GND, 58 PF4, 59 PF3, 60 PF2, 61 PF1, 62 PH6, 63 PH5, 64 RST_N, 65 PB3/I2C0SDA, 66 PB0/USB0ID, 67 PB1/USB0VBUS, 68 VDD, 69 GND, 70 USB0DM, 71 USB0DP, 72 PB2/I2C0SCL, 73 USB0RBIAS, 74 PE0, 75 PE1, 76 PH4, 77 PC3/TDO/SWO, 78 PC2/TDI, 79 PC1/TMS/SWDIO, 80 PC0/TCK/SWCLK, 81 VDD, 82 GND, 83 PH3, 84 PH2, 85 PH1, 86 PH0, 87 PJ1, 88 VDDC, 89 PB7, 90 PB6, 91 PB5, 92 PB4, 93 VDD, 94 GND, 95 PE2, 96 PE3, 97 PD4, 98 PD5, 99 PD6, 100 PD7

## LM3S5652-IQR
designator ?  Comment_1: LM3S5652-IQR  (hidden comment: *)
Stellaris ARM Cortex-M3 Microcontroller; Manufacturer #1: Luminary Micro; LMI Class: Dust Devil; Designator: U; Part Number: LM3S5652-IQR
footprint QFP50P1200X1200X160-64N
pins: 1 PE3/ADC0 (io), 2 PE2/ADC1 (io), 3 VDDA (power), 4 GNDA (power), 5 PE1/ADC2 (io), 6 PE0/ADC3 (io), 7 LDO, 8 PE4/CCP2 (power), 9 VDD25 (power), 10 GND (io), 11 PC4/CCP5 (io), 12 VDD (io), 13 GND (io), 14 PC5/USB0EPEN (power), 15 PC6/USB0PFLT (power), 16 PC7/CCP4 (io), 17 PA0/U0RX (io), 18 PA1/U0TX (io), 19 PA2/SSI0CLK (io), 20 PA3/SSI0FSS (power), 21 PA4/SSI0RX (power), 22 PA5/SSI0TX (io), 23 VDD25 (io), 24 GND (io), 25 PA6/CCP1 (io), 26 PA7/CCP3 (io), 27 PB3/I2C0SDA (io), 28 VDD (io), 29 GND (io), 30 OSC0 (io), 31 OSC1 (io), 32 WAKEN (power), 33 HIBN (power), 34 XOSC0 (io), 35 XOSC1 (io), 36 GND (io), 37 VBAT (io), 38 VDD25 (power), 39 GND (power), 40 RSTN (io), 41 PB0/USB0ID, 42 PB1/USB0VBUS (io), 43 VDD (io), 44 GND (power), 45 USB0DM (power), 46 USB0DP (io), 47 PB2/I2C0SCL (io), 48 USB0RBIAS, 49 PC3/TDO/SWO, 50 PC2/TDI, 51 PC1/TMS/SWDIO, 52 PC0/TCK/SWCLK, 53 GND, 54 VDD25 (power), 55 PB7/NMI (power), 56 PB6/C0+ (power), 57 PB5/CCP0 (power), 58 PB4/C0- (io), 59 VDD (io), 60 GND (io), 61 PD0/CAN0RX (io), 62 PD1/CAN0TX (power), 63 PD2/ADC5 (power), 64 PD3/ADC4

## LM3S5656-IQR
designator ?
Stellaris ARM Cortex-M3 Microcontroller; Manufacturer #1: Texas Instruments; Stellaris Class: Tempest; Part Number: LM3S5656-IQR
footprint QFP50P1200X1200X160-64N
pins: 1 PE3, 2 PE2, 3 VDDA, 4 GNDA, 5 PE1, 6 PE0, 7 LDO, 8 PE4, 9 VDDC, 10 GND, 11 PC4, 12 VDD, 13 GND, 14 PC5, 15 PC6 (power), 16 PC7, 17 PA0/U0RX, 18 PA1/U0TX, 19 PA2/SSI0CLK, 20 PA3/SSI0FSS, 21 PA4/SSI0RX, 22 PA5/SSI0TX, 23 VDDC, 24 GND, 25 PA6, 26 PA7, 27 PB3/I2C0SDA, 28 VDD, 29 GND, 30 OSC0, 31 OSC1, 32 WAKE_N, 33 HIB_N, 34 XOSC0, 35 XOSC1, 36 GND, 37 VBAT, 38 VDDC, 39 GND, 40 RST_N, 41 PB0/USB0ID, 42 PB1/USB0VBUS, 43 VDD, 44 GND, 45 USB0DM, 46 USB0DP, 47 PB2/I2C0SCL, 48 USB0RBIAS, 49 PC3/TDO/SWO, 50 PC2/TDI, 51 PC1/TMS/SWDIO, 52 PC0/TCK/SWCLK, 53 GND, 54 VDDC, 55 PB7, 56 PB6, 57 PB5, 58 PB4, 59 VDD, 60 GND, 61 PD0, 62 PD1, 63 PD2, 64 PD3

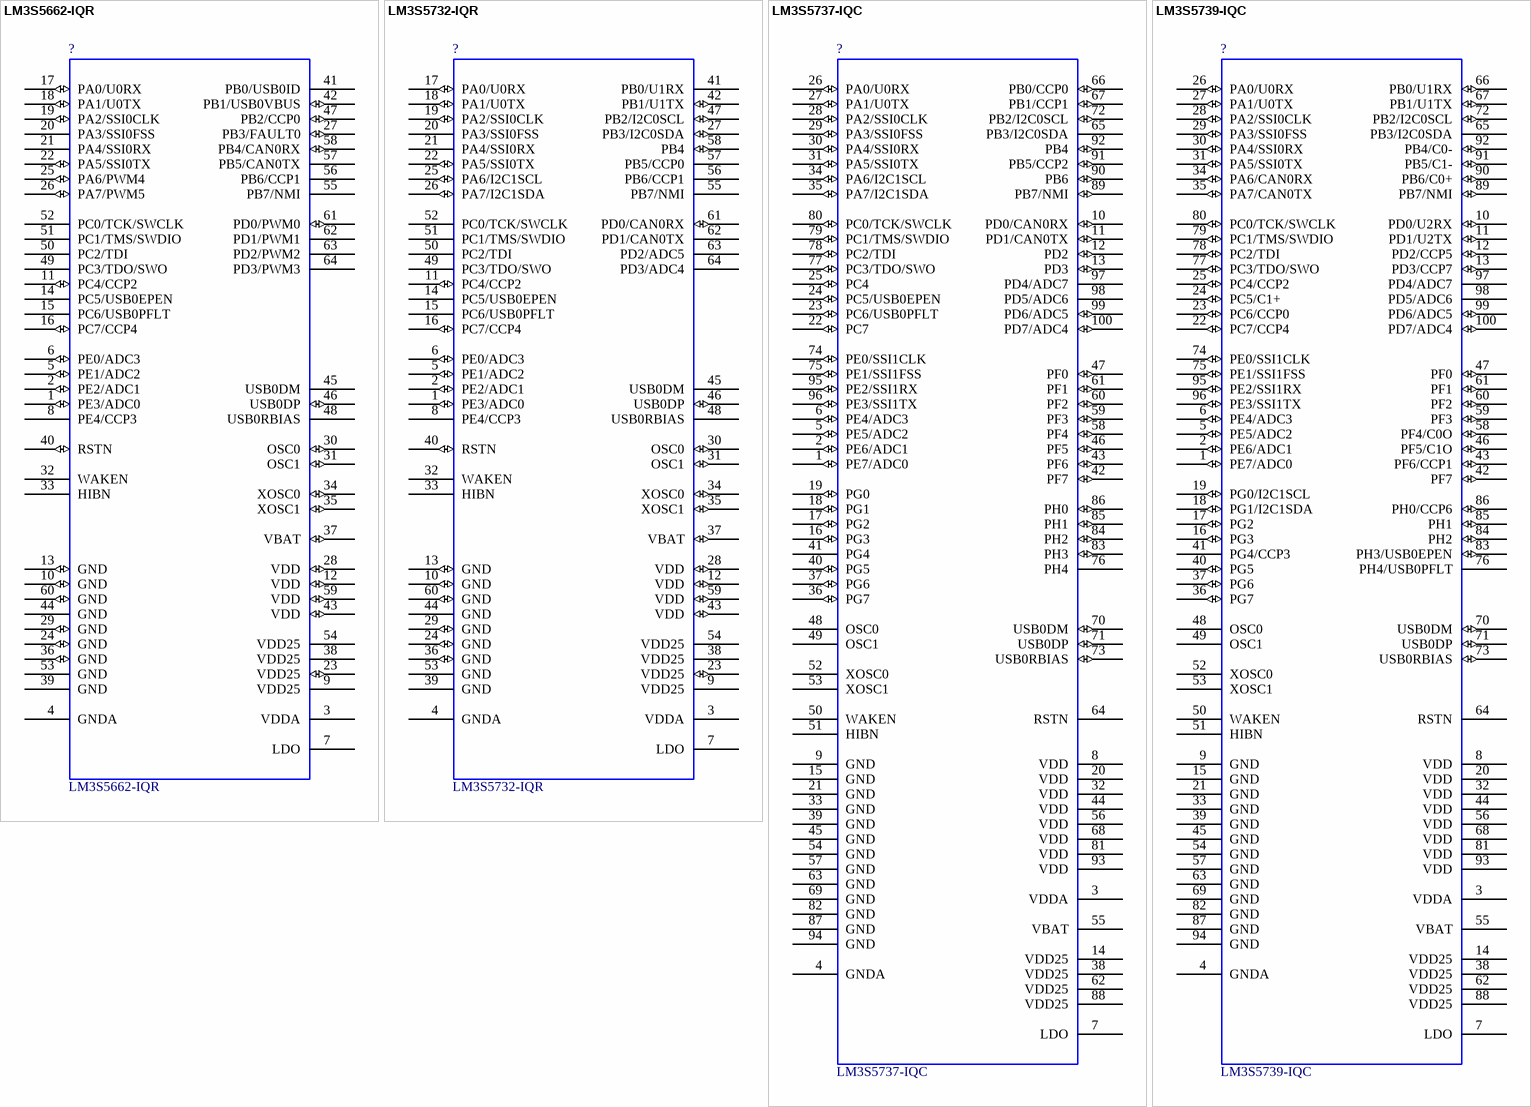
[diagram p48: symbols LM3S5662-IQR to LM3S5739-IQC]

## LM3S5662-IQR
designator ?  Comment_1: LM3S5662-IQR  (hidden comment: *)
Stellaris ARM Cortex-M3 Microcontroller; Manufacturer #1: Luminary Micro; LMI Class: Dust Devil; Designator: U; Part Number: LM3S5662-IQR
footprint QFP50P1200X1200X160-64N
pins: 1 PE3/ADC0 (io), 2 PE2/ADC1 (io), 3 VDDA (power), 4 GNDA (power), 5 PE1/ADC2 (io), 6 PE0/ADC3 (io), 7 LDO, 8 PE4/CCP3 (power), 9 VDD25 (power), 10 GND (io), 11 PC4/CCP2 (io), 12 VDD (io), 13 GND (io), 14 PC5/USB0EPEN (power), 15 PC6/USB0PFLT (power), 16 PC7/CCP4 (io), 17 PA0/U0RX (io), 18 PA1/U0TX (io), 19 PA2/SSI0CLK (io), 20 PA3/SSI0FSS (power), 21 PA4/SSI0RX (power), 22 PA5/SSI0TX (io), 23 VDD25 (io), 24 GND (io), 25 PA6/PWM4 (io), 26 PA7/PWM5 (io), 27 PB3/FAULT0 (io), 28 VDD (io), 29 GND (io), 30 OSC0 (io), 31 OSC1 (io), 32 WAKEN (power), 33 HIBN (power), 34 XOSC0 (io), 35 XOSC1 (io), 36 GND (io), 37 VBAT (io), 38 VDD25 (power), 39 GND (power), 40 RSTN (io), 41 PB0/USB0ID, 42 PB1/USB0VBUS (io), 43 VDD (io), 44 GND (power), 45 USB0DM (power), 46 USB0DP (io), 47 PB2/CCP0 (io), 48 USB0RBIAS, 49 PC3/TDO/SWO, 50 PC2/TDI, 51 PC1/TMS/SWDIO, 52 PC0/TCK/SWCLK, 53 GND, 54 VDD25 (power), 55 PB7/NMI (power), 56 PB6/CCP1 (power), 57 PB5/CAN0TX (power), 58 PB4/CAN0RX (io), 59 VDD (io), 60 GND (io), 61 PD0/PWM0 (io), 62 PD1/PWM1 (power), 63 PD2/PWM2 (power), 64 PD3/PWM3

## LM3S5732-IQR
designator ?  Comment_1: LM3S5732-IQR  (hidden comment: *)
Stellaris ARM Cortex-M3 Microcontroller; Manufacturer #1: Luminary Micro; LMI Class: Dust Devil; Designator: U; Part Number: LM3S5732-IQR
footprint QFP50P1200X1200X160-64N
pins: 1 PE3/ADC0 (io), 2 PE2/ADC1 (io), 3 VDDA (power), 4 GNDA (power), 5 PE1/ADC2 (io), 6 PE0/ADC3 (io), 7 LDO, 8 PE4/CCP3 (power), 9 VDD25 (power), 10 GND (io), 11 PC4/CCP2 (io), 12 VDD (io), 13 GND (io), 14 PC5/USB0EPEN (power), 15 PC6/USB0PFLT (power), 16 PC7/CCP4 (io), 17 PA0/U0RX (io), 18 PA1/U0TX (io), 19 PA2/SSI0CLK (io), 20 PA3/SSI0FSS (power), 21 PA4/SSI0RX (power), 22 PA5/SSI0TX (io), 23 VDD25 (io), 24 GND (io), 25 PA6/I2C1SCL (io), 26 PA7/I2C1SDA (io), 27 PB3/I2C0SDA (io), 28 VDD (io), 29 GND (io), 30 OSC0 (io), 31 OSC1 (io), 32 WAKEN (power), 33 HIBN (power), 34 XOSC0 (io), 35 XOSC1 (io), 36 GND (io), 37 VBAT (io), 38 VDD25 (power), 39 GND (power), 40 RSTN (io), 41 PB0/U1RX, 42 PB1/U1TX (io), 43 VDD (io), 44 GND (power), 45 USB0DM (power), 46 USB0DP (io), 47 PB2/I2C0SCL (io), 48 USB0RBIAS, 49 PC3/TDO/SWO, 50 PC2/TDI, 51 PC1/TMS/SWDIO, 52 PC0/TCK/SWCLK, 53 GND, 54 VDD25 (power), 55 PB7/NMI (power), 56 PB6/CCP1 (power), 57 PB5/CCP0 (power), 58 PB4 (io), 59 VDD (io), 60 GND (io), 61 PD0/CAN0RX (io), 62 PD1/CAN0TX (power), 63 PD2/ADC5 (power), 64 PD3/ADC4

## LM3S5737-IQC
designator ?  Comment_1: LM3S5737-IQC  (hidden comment: *)
Stellaris ARM Cortex-M3 Microcontroller; Manufacturer #1: Luminary Micro; LMI Class: Dust Devil; Designator: U; Part Number: LM3S5737-IQC
footprint QFP50P1600X1600X160-100N
pins: 1 PE7/ADC0 (io), 2 PE6/ADC1 (io), 3 VDDA (power), 4 GNDA (power), 5 PE5/ADC2 (io), 6 PE4/ADC3 (io), 7 LDO, 8 VDD (power), 9 GND (power), 10 PD0/CAN0RX (io), 11 PD1/CAN0TX (io), 12 PD2 (io), 13 PD3 (io), 14 VDD25 (power), 15 GND (power), 16 PG3 (io), 17 PG2 (io), 18 PG1 (io), 19 PG0 (io), 20 VDD (power), 21 GND (power), 22 PC7 (io), 23 PC6/USB0PFLT (io), 24 PC5/USB0EPEN (io), 25 PC4 (io), 26 PA0/U0RX (io), 27 PA1/U0TX (io), 28 PA2/SSI0CLK (io), 29 PA3/SSI0FSS (io), 30 PA4/SSI0RX (io), 31 PA5/SSI0TX (io), 32 VDD (power), 33 GND (power), 34 PA6/I2C1SCL (io), 35 PA7/I2C1SDA (io), 36 PG7 (io), 37 PG6 (io), 38 VDD25 (power), 39 GND (power), 40 PG5 (io), 41 PG4, 42 PF7 (io), 43 PF6 (io), 44 VDD (power), 45 GND (power), 46 PF5 (io), 47 PF0 (io), 48 OSC0, 49 OSC1, 50 WAKEN, 51 HIBN, 52 XOSC0, 53 XOSC1, 54 GND (power), 55 VBAT (power), 56 VDD (power), 57 GND (power), 58 PF4 (io), 59 PF3 (io), 60 PF2 (io), 61 PF1 (io), 62 VDD25 (power), 63 GND (power), 64 RSTN, 65 PB3/I2C0SDA, 66 PB0/CCP0 (io), 67 PB1/CCP1 (io), 68 VDD (power), 69 GND (power), 70 USB0DM (io), 71 USB0DP (io), 72 PB2/I2C0SCL (io), 73 USB0RBIAS (io), 74 PE0/SSI1CLK (io), 75 PE1/SSI1FSS (io), 76 PH4, 77 PC3/TDO/SWO (io), 78 PC2/TDI (io), 79 PC1/TMS/SWDIO (io), 80 PC0/TCK/SWCLK (io), 81 VDD (power), 82 GND (power), 83 PH3 (io), 84 PH2 (io), 85 PH1 (io), 86 PH0 (io), 87 GND (power), 88 VDD25 (power), 89 PB7/NMI (io), 90 PB6 (io), 91 PB5/CCP2 (io), 92 PB4 (io), 93 VDD (power), 94 GND (power), 95 PE2/SSI1RX (io), 96 PE3/SSI1TX (io), 97 PD4/ADC7 (power), 98 PD5/ADC6 (power), 99 PD6/ADC5 (io), 100 PD7/ADC4 (io)

## LM3S5739-IQC
designator ?  Comment_1: LM3S5739-IQC  (hidden comment: *)
Stellaris ARM Cortex-M3 Microcontroller; Manufacturer #1: Luminary Micro; LMI Class: Dust Devil; Designator: U; Part Number: LM3S5739-IQC
footprint QFP50P1600X1600X160-100N
pins: 1 PE7/ADC0 (io), 2 PE6/ADC1 (io), 3 VDDA (power), 4 GNDA (power), 5 PE5/ADC2 (io), 6 PE4/ADC3 (io), 7 LDO, 8 VDD (power), 9 GND (power), 10 PD0/U2RX (io), 11 PD1/U2TX (io), 12 PD2/CCP5 (io), 13 PD3/CCP7 (io), 14 VDD25 (power), 15 GND (power), 16 PG3 (io), 17 PG2 (io), 18 PG1/I2C1SDA (io), 19 PG0/I2C1SCL (io), 20 VDD (power), 21 GND (power), 22 PC7/CCP4 (io), 23 PC6/CCP0 (io), 24 PC5/C1+ (io), 25 PC4/CCP2 (io), 26 PA0/U0RX (io), 27 PA1/U0TX (io), 28 PA2/SSI0CLK (io), 29 PA3/SSI0FSS (io), 30 PA4/SSI0RX (io), 31 PA5/SSI0TX (io), 32 VDD (power), 33 GND (power), 34 PA6/CAN0RX (io), 35 PA7/CAN0TX (io), 36 PG7 (io), 37 PG6 (io), 38 VDD25 (power), 39 GND (power), 40 PG5 (io), 41 PG4/CCP3, 42 PF7 (io), 43 PF6/CCP1 (io), 44 VDD (power), 45 GND (power), 46 PF5/C1O (io), 47 PF0 (io), 48 OSC0, 49 OSC1, 50 WAKEN, 51 HIBN, 52 XOSC0, 53 XOSC1, 54 GND (power), 55 VBAT (power), 56 VDD (power), 57 GND (power), 58 PF4/C0O (io), 59 PF3 (io), 60 PF2 (io), 61 PF1 (io), 62 VDD25 (power), 63 GND (power), 64 RSTN, 65 PB3/I2C0SDA, 66 PB0/U1RX (io), 67 PB1/U1TX (io), 68 VDD (power), 69 GND (power), 70 USB0DM (io), 71 USB0DP (io), 72 PB2/I2C0SCL (io), 73 USB0RBIAS (io), 74 PE0/SSI1CLK (io), 75 PE1/SSI1FSS (io), 76 PH4/USB0PFLT, 77 PC3/TDO/SWO (io), 78 PC2/TDI (io), 79 PC1/TMS/SWDIO (io), 80 PC0/TCK/SWCLK (io), 81 VDD (power), 82 GND (power), 83 PH3/USB0EPEN (io), 84 PH2 (io), 85 PH1 (io), 86 PH0/CCP6 (io), 87 GND (power), 88 VDD25 (power), 89 PB7/NMI (io), 90 PB6/C0+ (io), 91 PB5/C1- (io), 92 PB4/C0- (io), 93 VDD (power), 94 GND (power), 95 PE2/SSI1RX (io), 96 PE3/SSI1TX (io), 97 PD4/ADC7 (power), 98 PD5/ADC6 (power), 99 PD6/ADC5 (io), 100 PD7/ADC4 (io)

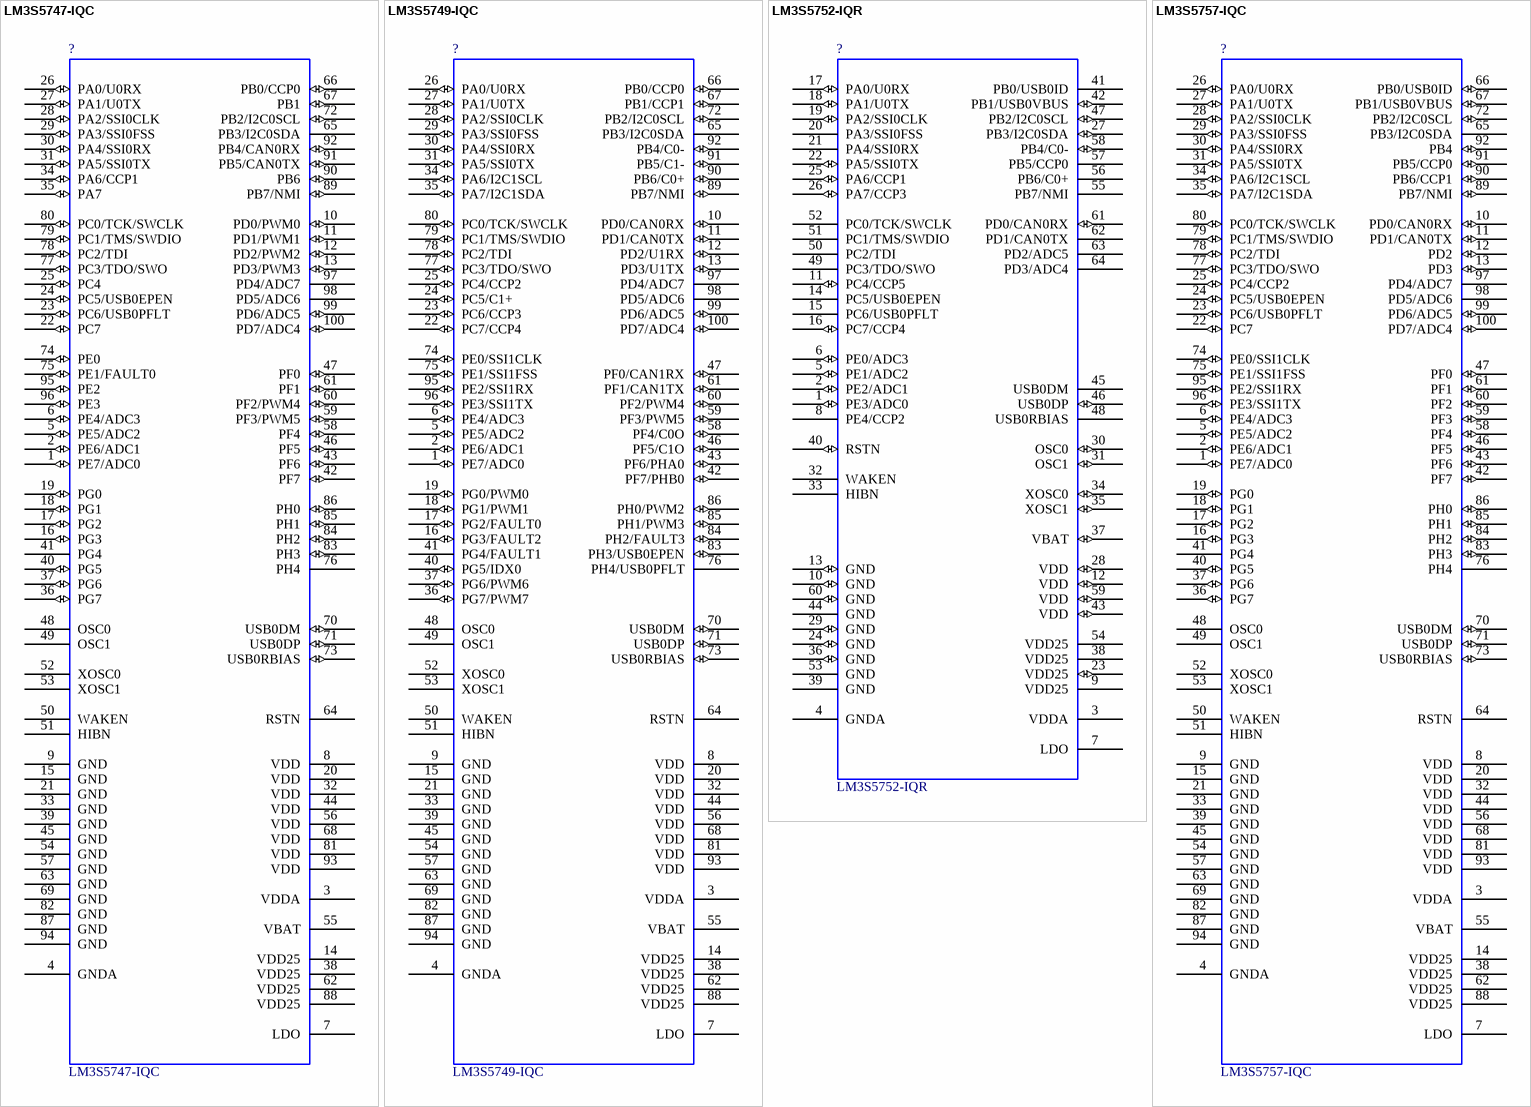
[diagram p49: symbols LM3S5747-IQC to LM3S5757-IQC]

## LM3S5747-IQC
designator ?  Comment_1: LM3S5747-IQC  (hidden comment: *)
Stellaris ARM Cortex-M3 Microcontroller; Manufacturer #1: Luminary Micro; LMI Class: Dust Devil; Designator: U; Part Number: LM3S5747-IQC
footprint QFP50P1600X1600X160-100N
pins: 1 PE7/ADC0 (io), 2 PE6/ADC1 (io), 3 VDDA (power), 4 GNDA (power), 5 PE5/ADC2 (io), 6 PE4/ADC3 (io), 7 LDO, 8 VDD (power), 9 GND (power), 10 PD0/PWM0 (io), 11 PD1/PWM1 (io), 12 PD2/PWM2 (io), 13 PD3/PWM3 (io), 14 VDD25 (power), 15 GND (power), 16 PG3 (io), 17 PG2 (io), 18 PG1 (io), 19 PG0 (io), 20 VDD (power), 21 GND (power), 22 PC7 (io), 23 PC6/USB0PFLT (io), 24 PC5/USB0EPEN (io), 25 PC4 (io), 26 PA0/U0RX (io), 27 PA1/U0TX (io), 28 PA2/SSI0CLK (io), 29 PA3/SSI0FSS (io), 30 PA4/SSI0RX (io), 31 PA5/SSI0TX (io), 32 VDD (power), 33 GND (power), 34 PA6/CCP1 (io), 35 PA7 (io), 36 PG7 (io), 37 PG6 (io), 38 VDD25 (power), 39 GND (power), 40 PG5 (io), 41 PG4, 42 PF7 (io), 43 PF6 (io), 44 VDD (power), 45 GND (power), 46 PF5 (io), 47 PF0 (io), 48 OSC0, 49 OSC1, 50 WAKEN, 51 HIBN, 52 XOSC0, 53 XOSC1, 54 GND (power), 55 VBAT (power), 56 VDD (power), 57 GND (power), 58 PF4 (io), 59 PF3/PWM5 (io), 60 PF2/PWM4 (io), 61 PF1 (io), 62 VDD25 (power), 63 GND (power), 64 RSTN, 65 PB3/I2C0SDA, 66 PB0/CCP0 (io), 67 PB1 (io), 68 VDD (power), 69 GND (power), 70 USB0DM (io), 71 USB0DP (io), 72 PB2/I2C0SCL (io), 73 USB0RBIAS (io), 74 PE0 (io), 75 PE1/FAULT0 (io), 76 PH4, 77 PC3/TDO/SWO (io), 78 PC2/TDI (io), 79 PC1/TMS/SWDIO (io), 80 PC0/TCK/SWCLK (io), 81 VDD (power), 82 GND (power), 83 PH3 (io), 84 PH2 (io), 85 PH1 (io), 86 PH0 (io), 87 GND (power), 88 VDD25 (power), 89 PB7/NMI (io), 90 PB6 (io), 91 PB5/CAN0TX (io), 92 PB4/CAN0RX (io), 93 VDD (power), 94 GND (power), 95 PE2 (io), 96 PE3 (io), 97 PD4/ADC7 (power), 98 PD5/ADC6 (power), 99 PD6/ADC5 (io), 100 PD7/ADC4 (io)

## LM3S5749-IQC
designator ?  Comment_1: LM3S5749-IQC  (hidden comment: *)
Stellaris ARM Cortex-M3 Microcontroller; Manufacturer #1: Luminary Micro; LMI Class: Dust Devil; Designator: U; Part Number: LM3S5749-IQC
footprint QFP50P1600X1600X160-100N
pins: 1 PE7/ADC0 (io), 2 PE6/ADC1 (io), 3 VDDA (power), 4 GNDA (power), 5 PE5/ADC2 (io), 6 PE4/ADC3 (io), 7 LDO, 8 VDD (power), 9 GND (power), 10 PD0/CAN0RX (io), 11 PD1/CAN0TX (io), 12 PD2/U1RX (io), 13 PD3/U1TX (io), 14 VDD25 (power), 15 GND (power), 16 PG3/FAULT2 (io), 17 PG2/FAULT0 (io), 18 PG1/PWM1 (io), 19 PG0/PWM0 (io), 20 VDD (power), 21 GND (power), 22 PC7/CCP4 (io), 23 PC6/CCP3 (io), 24 PC5/C1+ (io), 25 PC4/CCP2 (io), 26 PA0/U0RX (io), 27 PA1/U0TX (io), 28 PA2/SSI0CLK (io), 29 PA3/SSI0FSS (io), 30 PA4/SSI0RX (io), 31 PA5/SSI0TX (io), 32 VDD (power), 33 GND (power), 34 PA6/I2C1SCL (io), 35 PA7/I2C1SDA (io), 36 PG7/PWM7 (io), 37 PG6/PWM6 (io), 38 VDD25 (power), 39 GND (power), 40 PG5/IDX0 (io), 41 PG4/FAULT1, 42 PF7/PHB0 (io), 43 PF6/PHA0 (io), 44 VDD (power), 45 GND (power), 46 PF5/C1O (io), 47 PF0/CAN1RX (io), 48 OSC0, 49 OSC1, 50 WAKEN, 51 HIBN, 52 XOSC0, 53 XOSC1, 54 GND (power), 55 VBAT (power), 56 VDD (power), 57 GND (power), 58 PF4/C0O (io), 59 PF3/PWM5 (io), 60 PF2/PWM4 (io), 61 PF1/CAN1TX (io), 62 VDD25 (power), 63 GND (power), 64 RSTN, 65 PB3/I2C0SDA, 66 PB0/CCP0 (io), 67 PB1/CCP1 (io), 68 VDD (power), 69 GND (power), 70 USB0DM (io), 71 USB0DP (io), 72 PB2/I2C0SCL (io), 73 USB0RBIAS (io), 74 PE0/SSI1CLK (io), 75 PE1/SSI1FSS (io), 76 PH4/USB0PFLT, 77 PC3/TDO/SWO (io), 78 PC2/TDI (io), 79 PC1/TMS/SWDIO (io), 80 PC0/TCK/SWCLK (io), 81 VDD (power), 82 GND (power), 83 PH3/USB0EPEN (io), 84 PH2/FAULT3 (io), 85 PH1/PWM3 (io), 86 PH0/PWM2 (io), 87 GND (power), 88 VDD25 (power), 89 PB7/NMI (io), 90 PB6/C0+ (io), 91 PB5/C1- (io), 92 PB4/C0- (io), 93 VDD (power), 94 GND (power), 95 PE2/SSI1RX (io), 96 PE3/SSI1TX (io), 97 PD4/ADC7 (power), 98 PD5/ADC6 (power), 99 PD6/ADC5 (io), 100 PD7/ADC4 (io)

## LM3S5752-IQR
designator ?  Comment_1: LM3S5752-IQR  (hidden comment: *)
Stellaris ARM Cortex-M3 Microcontroller; Manufacturer #1: Luminary Micro; LMI Class: Dust Devil; Designator: U; Part Number: LM3S5752-IQR
footprint QFP50P1200X1200X160-64N
pins: 1 PE3/ADC0 (io), 2 PE2/ADC1 (io), 3 VDDA (power), 4 GNDA (power), 5 PE1/ADC2 (io), 6 PE0/ADC3 (io), 7 LDO, 8 PE4/CCP2 (power), 9 VDD25 (power), 10 GND (io), 11 PC4/CCP5 (io), 12 VDD (io), 13 GND (io), 14 PC5/USB0EPEN (power), 15 PC6/USB0PFLT (power), 16 PC7/CCP4 (io), 17 PA0/U0RX (io), 18 PA1/U0TX (io), 19 PA2/SSI0CLK (io), 20 PA3/SSI0FSS (power), 21 PA4/SSI0RX (power), 22 PA5/SSI0TX (io), 23 VDD25 (io), 24 GND (io), 25 PA6/CCP1 (io), 26 PA7/CCP3 (io), 27 PB3/I2C0SDA (io), 28 VDD (io), 29 GND (io), 30 OSC0 (io), 31 OSC1 (io), 32 WAKEN (power), 33 HIBN (power), 34 XOSC0 (io), 35 XOSC1 (io), 36 GND (io), 37 VBAT (io), 38 VDD25 (power), 39 GND (power), 40 RSTN (io), 41 PB0/USB0ID, 42 PB1/USB0VBUS (io), 43 VDD (io), 44 GND (power), 45 USB0DM (power), 46 USB0DP (io), 47 PB2/I2C0SCL (io), 48 USB0RBIAS, 49 PC3/TDO/SWO, 50 PC2/TDI, 51 PC1/TMS/SWDIO, 52 PC0/TCK/SWCLK, 53 GND, 54 VDD25 (power), 55 PB7/NMI (power), 56 PB6/C0+ (power), 57 PB5/CCP0 (power), 58 PB4/C0- (io), 59 VDD (io), 60 GND (io), 61 PD0/CAN0RX (io), 62 PD1/CAN0TX (power), 63 PD2/ADC5 (power), 64 PD3/ADC4

## LM3S5757-IQC
designator ?  Comment_1: LM3S5757-IQC  (hidden comment: *)
Stellaris ARM Cortex-M3 Microcontroller; Manufacturer #1: Luminary Micro; LMI Class: Dust Devil; Designator: U; Part Number: LM3S5757-IQC
footprint QFP50P1600X1600X160-100N
pins: 1 PE7/ADC0 (io), 2 PE6/ADC1 (io), 3 VDDA (power), 4 GNDA (power), 5 PE5/ADC2 (io), 6 PE4/ADC3 (io), 7 LDO, 8 VDD (power), 9 GND (power), 10 PD0/CAN0RX (io), 11 PD1/CAN0TX (io), 12 PD2 (io), 13 PD3 (io), 14 VDD25 (power), 15 GND (power), 16 PG3 (io), 17 PG2 (io), 18 PG1 (io), 19 PG0 (io), 20 VDD (power), 21 GND (power), 22 PC7 (io), 23 PC6/USB0PFLT (io), 24 PC5/USB0EPEN (io), 25 PC4/CCP2 (io), 26 PA0/U0RX (io), 27 PA1/U0TX (io), 28 PA2/SSI0CLK (io), 29 PA3/SSI0FSS (io), 30 PA4/SSI0RX (io), 31 PA5/SSI0TX (io), 32 VDD (power), 33 GND (power), 34 PA6/I2C1SCL (io), 35 PA7/I2C1SDA (io), 36 PG7 (io), 37 PG6 (io), 38 VDD25 (power), 39 GND (power), 40 PG5 (io), 41 PG4, 42 PF7 (io), 43 PF6 (io), 44 VDD (power), 45 GND (power), 46 PF5 (io), 47 PF0 (io), 48 OSC0, 49 OSC1, 50 WAKEN, 51 HIBN, 52 XOSC0, 53 XOSC1, 54 GND (power), 55 VBAT (power), 56 VDD (power), 57 GND (power), 58 PF4 (io), 59 PF3 (io), 60 PF2 (io), 61 PF1 (io), 62 VDD25 (power), 63 GND (power), 64 RSTN, 65 PB3/I2C0SDA, 66 PB0/USB0ID (io), 67 PB1/USB0VBUS (io), 68 VDD (power), 69 GND (power), 70 USB0DM (io), 71 USB0DP (io), 72 PB2/I2C0SCL (io), 73 USB0RBIAS (io), 74 PE0/SSI1CLK (io), 75 PE1/SSI1FSS (io), 76 PH4, 77 PC3/TDO/SWO (io), 78 PC2/TDI (io), 79 PC1/TMS/SWDIO (io), 80 PC0/TCK/SWCLK (io), 81 VDD (power), 82 GND (power), 83 PH3 (io), 84 PH2 (io), 85 PH1 (io), 86 PH0 (io), 87 GND (power), 88 VDD25 (power), 89 PB7/NMI (io), 90 PB6/CCP1 (io), 91 PB5/CCP0 (io), 92 PB4 (io), 93 VDD (power), 94 GND (power), 95 PE2/SSI1RX (io), 96 PE3/SSI1TX (io), 97 PD4/ADC7 (power), 98 PD5/ADC6 (power), 99 PD6/ADC5 (io), 100 PD7/ADC4 (io)

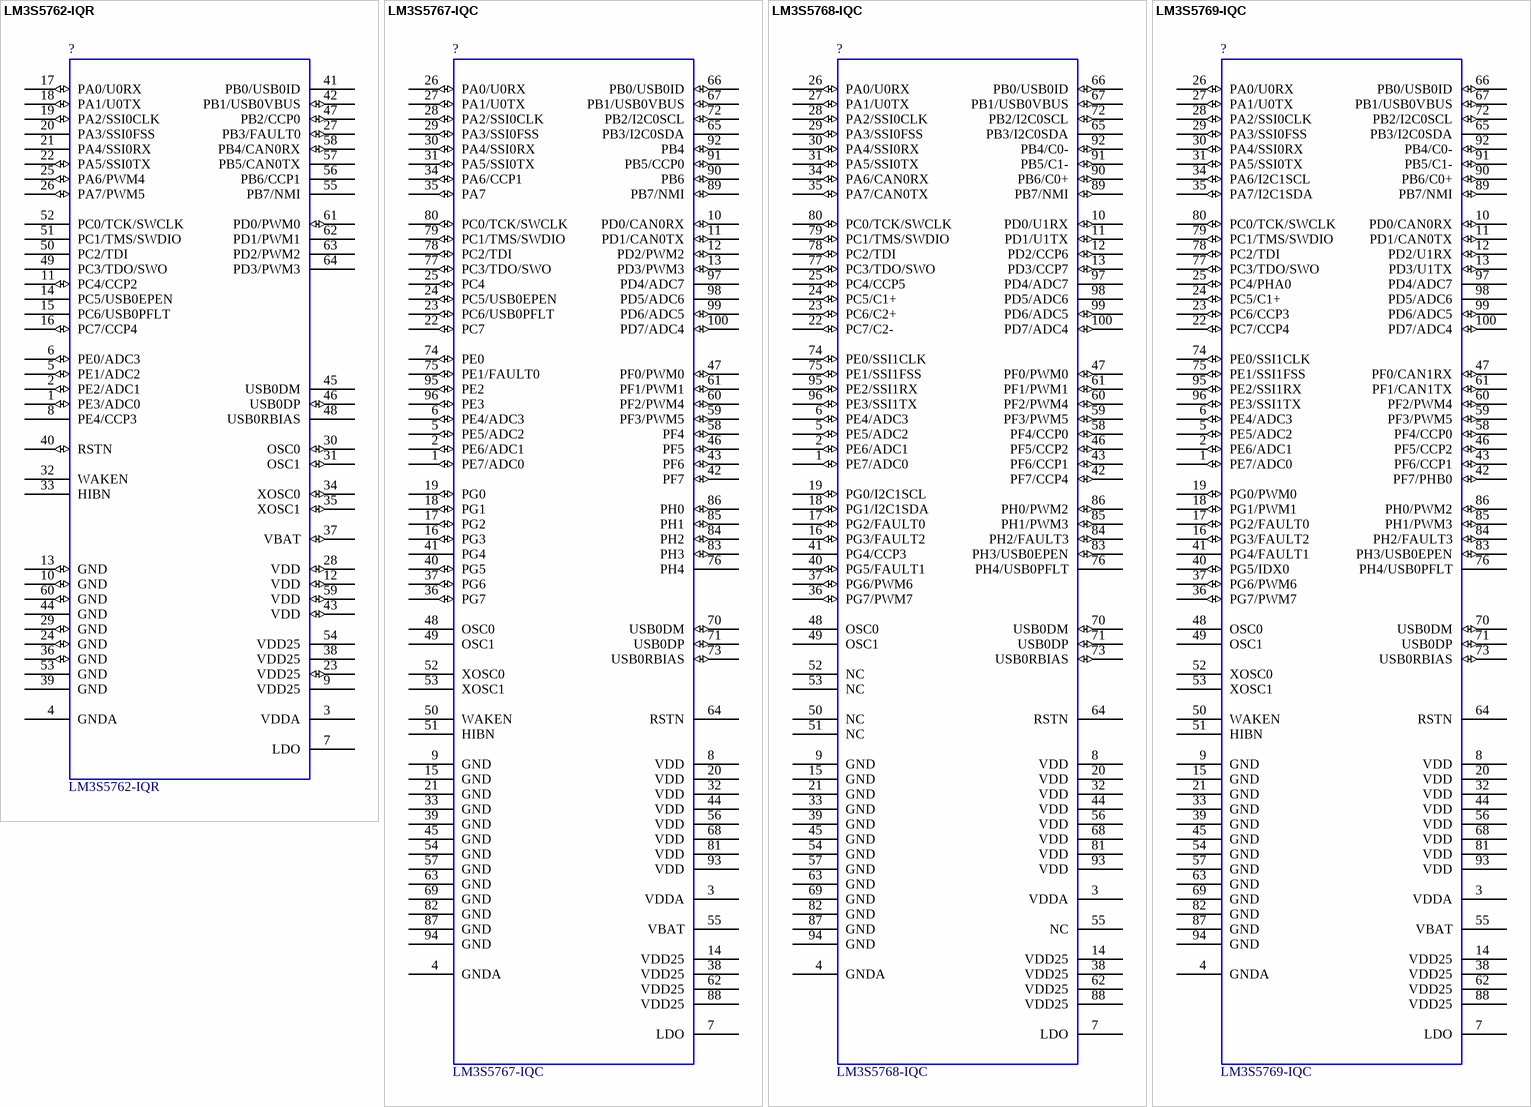
[diagram p50: symbols LM3S5762-IQR to LM3S5769-IQC]

## LM3S5762-IQR
designator ?  Comment_1: LM3S5762-IQR  (hidden comment: *)
Stellaris ARM Cortex-M3 Microcontroller; Manufacturer #1: Luminary Micro; LMI Class: Dust Devil; Designator: U; Part Number: LM3S5762-IQR
footprint QFP50P1200X1200X160-64N
pins: 1 PE3/ADC0 (io), 2 PE2/ADC1 (io), 3 VDDA (power), 4 GNDA (power), 5 PE1/ADC2 (io), 6 PE0/ADC3 (io), 7 LDO, 8 PE4/CCP3 (power), 9 VDD25 (power), 10 GND (io), 11 PC4/CCP2 (io), 12 VDD (io), 13 GND (io), 14 PC5/USB0EPEN (power), 15 PC6/USB0PFLT (power), 16 PC7/CCP4 (io), 17 PA0/U0RX (io), 18 PA1/U0TX (io), 19 PA2/SSI0CLK (io), 20 PA3/SSI0FSS (power), 21 PA4/SSI0RX (power), 22 PA5/SSI0TX (io), 23 VDD25 (io), 24 GND (io), 25 PA6/PWM4 (io), 26 PA7/PWM5 (io), 27 PB3/FAULT0 (io), 28 VDD (io), 29 GND (io), 30 OSC0 (io), 31 OSC1 (io), 32 WAKEN (power), 33 HIBN (power), 34 XOSC0 (io), 35 XOSC1 (io), 36 GND (io), 37 VBAT (io), 38 VDD25 (power), 39 GND (power), 40 RSTN (io), 41 PB0/USB0ID, 42 PB1/USB0VBUS (io), 43 VDD (io), 44 GND (power), 45 USB0DM (power), 46 USB0DP (io), 47 PB2/CCP0 (io), 48 USB0RBIAS, 49 PC3/TDO/SWO, 50 PC2/TDI, 51 PC1/TMS/SWDIO, 52 PC0/TCK/SWCLK, 53 GND, 54 VDD25 (power), 55 PB7/NMI (power), 56 PB6/CCP1 (power), 57 PB5/CAN0TX (power), 58 PB4/CAN0RX (io), 59 VDD (io), 60 GND (io), 61 PD0/PWM0 (io), 62 PD1/PWM1 (power), 63 PD2/PWM2 (power), 64 PD3/PWM3

## LM3S5767-IQC
designator ?  Comment_1: LM3S5767-IQC  (hidden comment: *)
Stellaris ARM Cortex-M3 Microcontroller; Manufacturer #1: Luminary Micro; LMI Class: Dust Devil; Designator: U; Part Number: LM3S5767-IQC
footprint QFP50P1600X1600X160-100N
pins: 1 PE7/ADC0 (io), 2 PE6/ADC1 (io), 3 VDDA (power), 4 GNDA (power), 5 PE5/ADC2 (io), 6 PE4/ADC3 (io), 7 LDO, 8 VDD (power), 9 GND (power), 10 PD0/CAN0RX (io), 11 PD1/CAN0TX (io), 12 PD2/PWM2 (io), 13 PD3/PWM3 (io), 14 VDD25 (power), 15 GND (power), 16 PG3 (io), 17 PG2 (io), 18 PG1 (io), 19 PG0 (io), 20 VDD (power), 21 GND (power), 22 PC7 (io), 23 PC6/USB0PFLT (io), 24 PC5/USB0EPEN (io), 25 PC4 (io), 26 PA0/U0RX (io), 27 PA1/U0TX (io), 28 PA2/SSI0CLK (io), 29 PA3/SSI0FSS (io), 30 PA4/SSI0RX (io), 31 PA5/SSI0TX (io), 32 VDD (power), 33 GND (power), 34 PA6/CCP1 (io), 35 PA7 (io), 36 PG7 (io), 37 PG6 (io), 38 VDD25 (power), 39 GND (power), 40 PG5 (io), 41 PG4, 42 PF7 (io), 43 PF6 (io), 44 VDD (power), 45 GND (power), 46 PF5 (io), 47 PF0/PWM0 (io), 48 OSC0, 49 OSC1, 50 WAKEN, 51 HIBN, 52 XOSC0, 53 XOSC1, 54 GND (power), 55 VBAT (power), 56 VDD (power), 57 GND (power), 58 PF4 (io), 59 PF3/PWM5 (io), 60 PF2/PWM4 (io), 61 PF1/PWM1 (io), 62 VDD25 (power), 63 GND (power), 64 RSTN, 65 PB3/I2C0SDA, 66 PB0/USB0ID (io), 67 PB1/USB0VBUS (io), 68 VDD (power), 69 GND (power), 70 USB0DM (io), 71 USB0DP (io), 72 PB2/I2C0SCL (io), 73 USB0RBIAS (io), 74 PE0 (io), 75 PE1/FAULT0 (io), 76 PH4, 77 PC3/TDO/SWO (io), 78 PC2/TDI (io), 79 PC1/TMS/SWDIO (io), 80 PC0/TCK/SWCLK (io), 81 VDD (power), 82 GND (power), 83 PH3 (io), 84 PH2 (io), 85 PH1 (io), 86 PH0 (io), 87 GND (power), 88 VDD25 (power), 89 PB7/NMI (io), 90 PB6 (io), 91 PB5/CCP0 (io), 92 PB4 (io), 93 VDD (power), 94 GND (power), 95 PE2 (io), 96 PE3 (io), 97 PD4/ADC7 (power), 98 PD5/ADC6 (power), 99 PD6/ADC5 (io), 100 PD7/ADC4 (io)

## LM3S5768-IQC
designator ?  Comment_1: LM3S5768-IQC  (hidden comment: *)
Stellaris ARM Cortex-M3 Microcontroller; Manufacturer #1: Luminary Micro; LMI Class: Dust Devil; Designator: U; Part Number: LM3S5768-IQC
footprint QFP50P1600X1600X160-100N
pins: 1 PE7/ADC0 (io), 2 PE6/ADC1 (io), 3 VDDA (power), 4 GNDA (power), 5 PE5/ADC2 (io), 6 PE4/ADC3 (io), 7 LDO, 8 VDD (power), 9 GND (power), 10 PD0/U1RX (io), 11 PD1/U1TX (io), 12 PD2/CCP6 (io), 13 PD3/CCP7 (io), 14 VDD25 (power), 15 GND (power), 16 PG3/FAULT2 (io), 17 PG2/FAULT0 (io), 18 PG1/I2C1SDA (io), 19 PG0/I2C1SCL (io), 20 VDD (power), 21 GND (power), 22 PC7/C2- (io), 23 PC6/C2+ (io), 24 PC5/C1+ (io), 25 PC4/CCP5 (io), 26 PA0/U0RX (io), 27 PA1/U0TX (io), 28 PA2/SSI0CLK (io), 29 PA3/SSI0FSS (io), 30 PA4/SSI0RX (io), 31 PA5/SSI0TX (io), 32 VDD (power), 33 GND (power), 34 PA6/CAN0RX (io), 35 PA7/CAN0TX (io), 36 PG7/PWM7 (io), 37 PG6/PWM6 (io), 38 VDD25 (power), 39 GND (power), 40 PG5/FAULT1 (io), 41 PG4/CCP3, 42 PF7/CCP4 (io), 43 PF6/CCP1 (io), 44 VDD (power), 45 GND (power), 46 PF5/CCP2 (io), 47 PF0/PWM0 (io), 48 OSC0, 49 OSC1, 50 NC, 51 NC, 52 NC, 53 NC, 54 GND (power), 55 NC (power), 56 VDD (power), 57 GND (power), 58 PF4/CCP0 (io), 59 PF3/PWM5 (io), 60 PF2/PWM4 (io), 61 PF1/PWM1 (io), 62 VDD25 (power), 63 GND (power), 64 RSTN, 65 PB3/I2C0SDA, 66 PB0/USB0ID (io), 67 PB1/USB0VBUS (io), 68 VDD (power), 69 GND (power), 70 USB0DM (io), 71 USB0DP (io), 72 PB2/I2C0SCL (io), 73 USB0RBIAS (io), 74 PE0/SSI1CLK (io), 75 PE1/SSI1FSS (io), 76 PH4/USB0PFLT, 77 PC3/TDO/SWO (io), 78 PC2/TDI (io), 79 PC1/TMS/SWDIO (io), 80 PC0/TCK/SWCLK (io), 81 VDD (power), 82 GND (power), 83 PH3/USB0EPEN (io), 84 PH2/FAULT3 (io), 85 PH1/PWM3 (io), 86 PH0/PWM2 (io), 87 GND (power), 88 VDD25 (power), 89 PB7/NMI (io), 90 PB6/C0+ (io), 91 PB5/C1- (io), 92 PB4/C0- (io), 93 VDD (power), 94 GND (power), 95 PE2/SSI1RX (io), 96 PE3/SSI1TX (io), 97 PD4/ADC7 (power), 98 PD5/ADC6 (power), 99 PD6/ADC5 (io), 100 PD7/ADC4 (io)

## LM3S5769-IQC
designator ?  Comment_1: LM3S5769-IQC  (hidden comment: *)
Stellaris ARM Cortex-M3 Microcontroller; Manufacturer #1: Luminary Micro; LMI Class: Dust Devil; Designator: U; Part Number: LM3S5769-IQC
footprint QFP50P1600X1600X160-100N
pins: 1 PE7/ADC0 (io), 2 PE6/ADC1 (io), 3 VDDA (power), 4 GNDA (power), 5 PE5/ADC2 (io), 6 PE4/ADC3 (io), 7 LDO, 8 VDD (power), 9 GND (power), 10 PD0/CAN0RX (io), 11 PD1/CAN0TX (io), 12 PD2/U1RX (io), 13 PD3/U1TX (io), 14 VDD25 (power), 15 GND (power), 16 PG3/FAULT2 (io), 17 PG2/FAULT0 (io), 18 PG1/PWM1 (io), 19 PG0/PWM0 (io), 20 VDD (power), 21 GND (power), 22 PC7/CCP4 (io), 23 PC6/CCP3 (io), 24 PC5/C1+ (io), 25 PC4/PHA0 (io), 26 PA0/U0RX (io), 27 PA1/U0TX (io), 28 PA2/SSI0CLK (io), 29 PA3/SSI0FSS (io), 30 PA4/SSI0RX (io), 31 PA5/SSI0TX (io), 32 VDD (power), 33 GND (power), 34 PA6/I2C1SCL (io), 35 PA7/I2C1SDA (io), 36 PG7/PWM7 (io), 37 PG6/PWM6 (io), 38 VDD25 (power), 39 GND (power), 40 PG5/IDX0 (io), 41 PG4/FAULT1, 42 PF7/PHB0 (io), 43 PF6/CCP1 (io), 44 VDD (power), 45 GND (power), 46 PF5/CCP2 (io), 47 PF0/CAN1RX (io), 48 OSC0, 49 OSC1, 50 WAKEN, 51 HIBN, 52 XOSC0, 53 XOSC1, 54 GND (power), 55 VBAT (power), 56 VDD (power), 57 GND (power), 58 PF4/CCP0 (io), 59 PF3/PWM5 (io), 60 PF2/PWM4 (io), 61 PF1/CAN1TX (io), 62 VDD25 (power), 63 GND (power), 64 RSTN, 65 PB3/I2C0SDA, 66 PB0/USB0ID (io), 67 PB1/USB0VBUS (io), 68 VDD (power), 69 GND (power), 70 USB0DM (io), 71 USB0DP (io), 72 PB2/I2C0SCL (io), 73 USB0RBIAS (io), 74 PE0/SSI1CLK (io), 75 PE1/SSI1FSS (io), 76 PH4/USB0PFLT, 77 PC3/TDO/SWO (io), 78 PC2/TDI (io), 79 PC1/TMS/SWDIO (io), 80 PC0/TCK/SWCLK (io), 81 VDD (power), 82 GND (power), 83 PH3/USB0EPEN (io), 84 PH2/FAULT3 (io), 85 PH1/PWM3 (io), 86 PH0/PWM2 (io), 87 GND (power), 88 VDD25 (power), 89 PB7/NMI (io), 90 PB6/C0+ (io), 91 PB5/C1- (io), 92 PB4/C0- (io), 93 VDD (power), 94 GND (power), 95 PE2/SSI1RX (io), 96 PE3/SSI1TX (io), 97 PD4/ADC7 (power), 98 PD5/ADC6 (power), 99 PD6/ADC5 (io), 100 PD7/ADC4 (io)

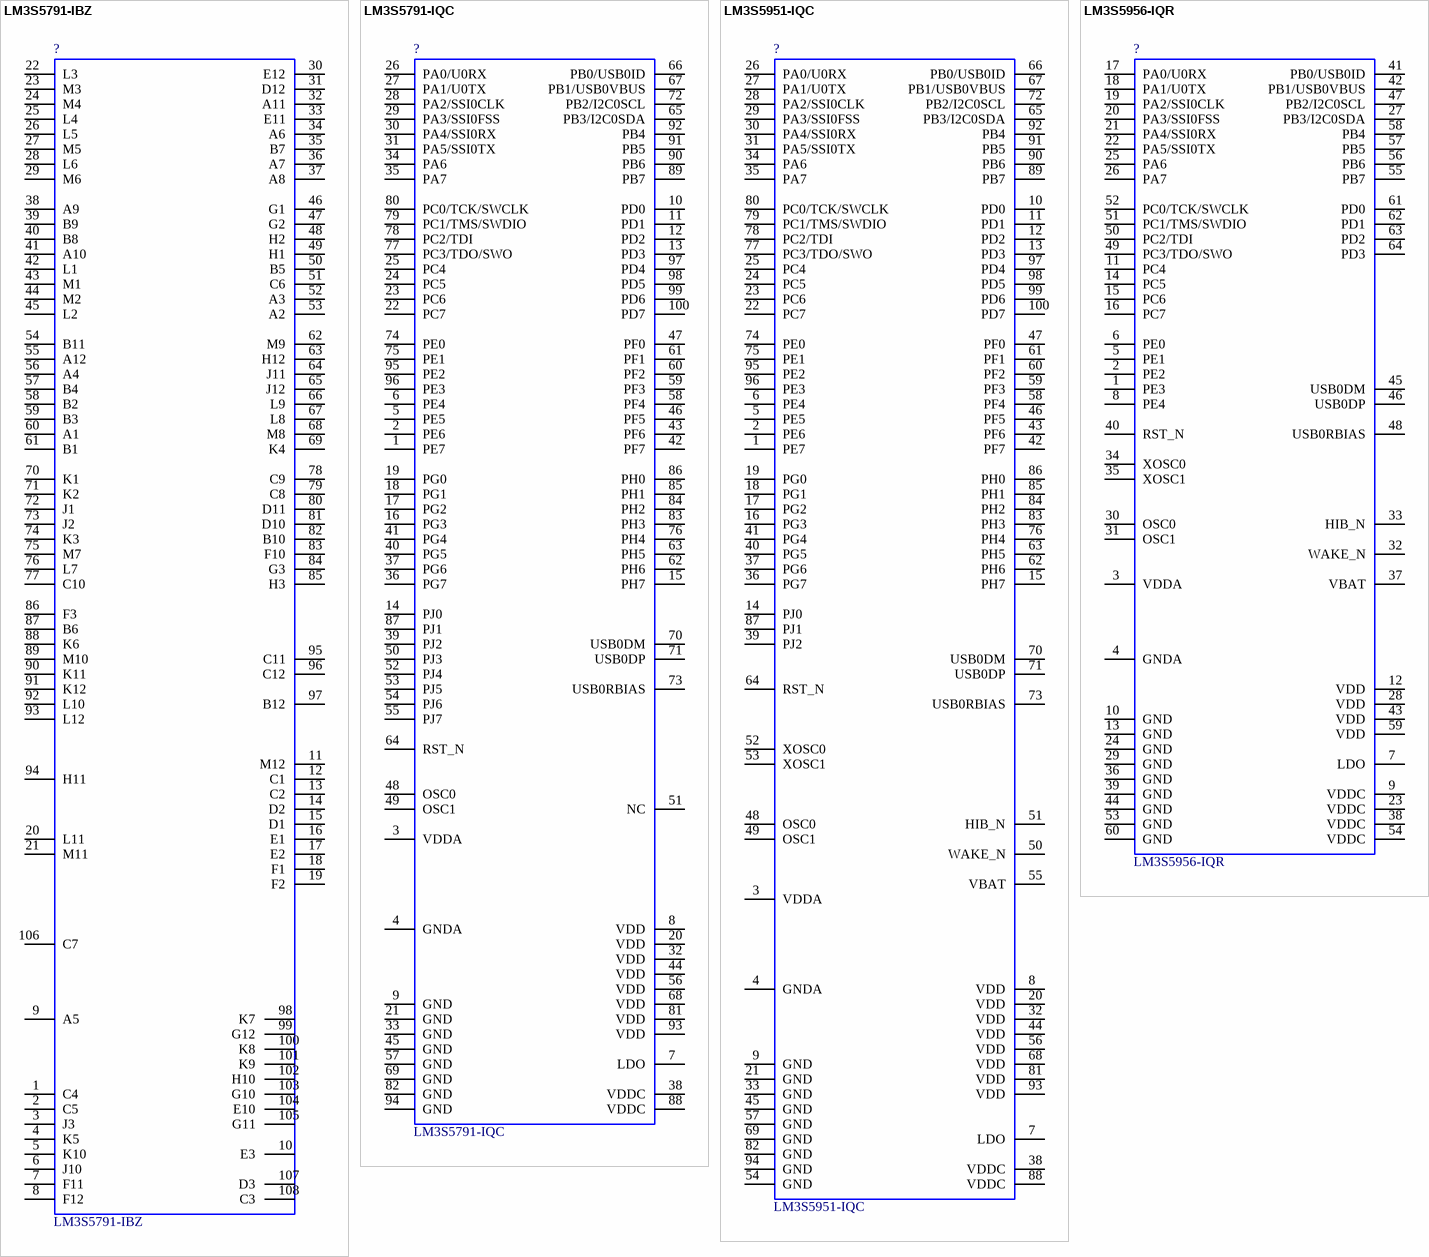
[diagram p51: symbols LM3S5791-IBZ to LM3S5956-IQR]

## LM3S5791-IBZ
designator ?
Stellaris ARM Cortex-M3 Microcontroller; Manufacturer #1: Texas Instruments; Stellaris Class: Tempest; Part Number: LM3S5791-IBZ
footprint BGA108C80P12X12_1000X1000X150
pins: 1 C4, 2 C5, 3 J3, 4 K5, 5 K10, 6 J10, 7 F11, 8 F12, 9 A5, 10 E3, 11 M12, 12 C1, 13 C2, 14 D2, 15 D1, 16 E1, 17 E2, 18 F1, 19 F2, 20 L11, 21 M11, 22 L3, 23 M3, 24 M4, 25 L4, 26 L5, 27 M5, 28 L6, 29 M6, 30 E12, 31 D12, 32 A11, 33 E11, 34 A6, 35 B7, 36 A7, 37 A8, 38 A9, 39 B9, 40 B8, 41 A10, 42 L1, 43 M1, 44 M2, 45 L2, 46 G1, 47 G2, 48 H2, 49 H1, 50 B5, 51 C6, 52 A3, 53 A2, 54 B11, 55 A12, 56 A4, 57 B4, 58 B2, 59 B3, 60 A1, 61 B1, 62 M9, 63 H12, 64 J11, 65 J12, 66 L9, 67 L8, 68 M8, 69 K4, 70 K1, 71 K2, 72 J1, 73 J2, 74 K3, 75 M7, 76 L7, 77 C10, 78 C9, 79 C8, 80 D11, 81 D10, 82 B10, 83 F10, 84 G3, 85 H3, 86 F3, 87 B6, 88 K6, 89 M10, 90 K11, 91 K12, 92 L10, 93 L12, 94 H11, 95 C11, 96 C12, 97 B12, 98 K7, 99 G12, 100 K8, 101 K9, 102 H10, 103 G10, 104 E10, 105 G11, 106 C7, 107 D3, 108 C3

## LM3S5791-IQC
designator ?
Stellaris ARM Cortex-M3 Microcontroller; Manufacturer #1: Texas Instruments; Stellaris Class: Tempest; Part Number: LM3S5791-IQC
footprint QFP50P1600X1600X160-100N
pins: 1 PE7, 2 PE6, 3 VDDA, 4 GNDA, 5 PE5, 6 PE4, 7 LDO, 8 VDD, 9 GND, 10 PD0, 11 PD1, 12 PD2, 13 PD3, 14 PJ0, 15 PH7, 16 PG3, 17 PG2, 18 PG1, 19 PG0, 20 VDD, 21 GND, 22 PC7, 23 PC6, 24 PC5, 25 PC4, 26 PA0/U0RX, 27 PA1/U0TX, 28 PA2/SSI0CLK, 29 PA3/SSI0FSS, 30 PA4/SSI0RX, 31 PA5/SSI0TX, 32 VDD, 33 GND, 34 PA6, 35 PA7, 36 PG7, 37 PG6, 38 VDDC, 39 PJ2, 40 PG5, 41 PG4, 42 PF7, 43 PF6, 44 VDD, 45 GND, 46 PF5, 47 PF0, 48 OSC0, 49 OSC1, 50 PJ3, 51 NC, 52 PJ4, 53 PJ5, 54 PJ6, 55 PJ7, 56 VDD, 57 GND, 58 PF4, 59 PF3, 60 PF2, 61 PF1, 62 PH6, 63 PH5, 64 RST_N, 65 PB3/I2C0SDA, 66 PB0/USB0ID, 67 PB1/USB0VBUS, 68 VDD, 69 GND, 70 USB0DM, 71 USB0DP, 72 PB2/I2C0SCL, 73 USB0RBIAS, 74 PE0, 75 PE1, 76 PH4, 77 PC3/TDO/SWO, 78 PC2/TDI, 79 PC1/TMS/SWDIO, 80 PC0/TCK/SWCLK, 81 VDD, 82 GND, 83 PH3, 84 PH2, 85 PH1, 86 PH0, 87 PJ1, 88 VDDC, 89 PB7, 90 PB6, 91 PB5, 92 PB4, 93 VDD, 94 GND, 95 PE2, 96 PE3, 97 PD4, 98 PD5, 99 PD6, 100 PD7